# Altium schematic symbol library Libreria_Casera.SchLib: 169 symbols (part 1 of 2)
Pins are listed as number, name and electrical type; pins without a type are passive.

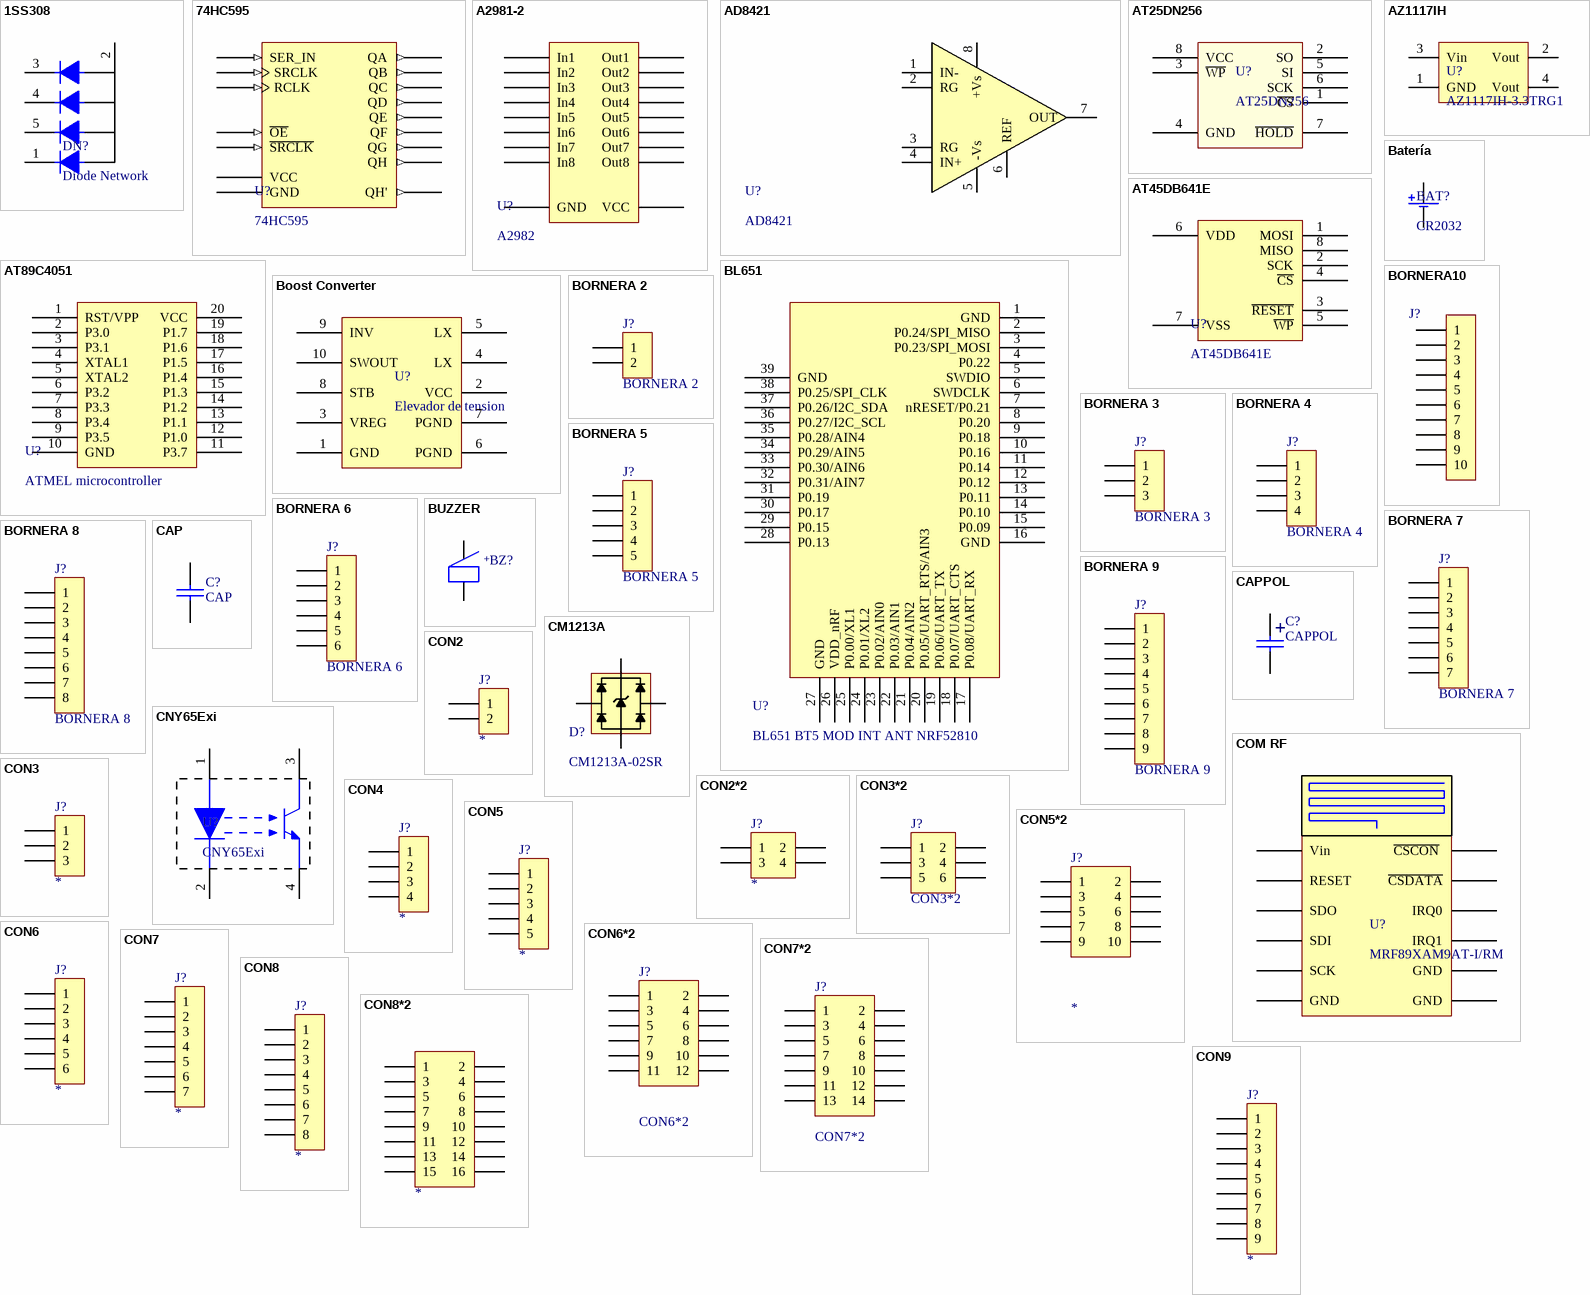
[diagram p0: symbols 1SS308 to CON9]

## 1SS308
designator DN?, comment Diode Network
footprint sot23-5
pins: 1, 2, 3, 4, 5

## 74HC595
designator U?
footprint SOIC16 (SOIC, 16-Leads, Body 9,90x3,90mm, Pitch 1,27mm, IPC Medium Density)
footprint SSOP16 (SOP, 16-Leads, Body 6,20x5,30mm, Pitch 0,65mm, IPC Medium Density)
footprint TSSOP16
pins: 1 QB (out), 2 QC (out), 3 QD (out), 4 QE (out), 5 QF (out), 6 QG (out), 7 QH (out), 8 GND (power), 9 QH' (out), 10 ~{SRCLK} (in), 11 SRCLK (in), 12 RCLK (in), 13 ~{OE} (in), 14 SER_IN (in), 15 QA (out), 16 VCC (power)

## A2981-2
designator U?, comment A2982
footprint SOICW20
pins: 1 In1, 2 In2, 3 In3, 4 In4, 5 In5, 6 In6, 7 In7, 8 In8, 9 VCC, 12 GND, 13 Out8, 14 Out7, 15 Out6, 16 Out5, 17 Out4, 18 Out3, 19 Out2, 20 Out1

## AD8421
designator U?
footprint msop8 (TSOP, 8-Leads, Body 3,00x3,00mm, Pitch 0,65mm, IPC Medium Density)
pins: 1 IN-, 2 RG, 3 RG, 4 IN+, 5 -Vs, 6 REF, 7 OUT, 8 +Vs

## AT25DN256
designator U?
256-Kbit, 2.3V Minimum SPI Serial Flash Memory with Dual-Read Suppor
footprint SOIC8
footprint TSSOP8
footprint UFDN8 (SON, 8-Leads, Body 5,00x6,00mm, Pitch 1,27mm, Thermal Pad 4,00x3,40mm, IPC Medium Density)
pins: 1 ~{CS}, 2 SO, 3 ~{WP}, 4 GND, 5 SI, 6 SCK, 7 ~{HOLD}, 8 VCC

## AT45DB641E
designator U?
NOR FLASH SERIAL 64M
footprint SOICW08
footprint UFDN8 (SON, 8-Leads, Body 5,00x6,00mm, Pitch 1,27mm, Thermal Pad 4,00x3,40mm, IPC Medium Density)
pins: 1 MOSI, 2 SCK, 3 ~{RESET}, 4 ~{CS}, 5 ~{WP}, 6 VDD, 7 VSS, 8 MISO

## AT89C4051
designator U?, comment ATMEL microcontroller
footprint DIP20
pins: 1 RST/VPP, 2 P3.0, 3 P3.1, 4 XTAL1, 5 XTAL2, 6 P3.2, 7 P3.3, 8 P3.4, 9 P3.5, 10 GND, 11 P3.7, 12 P1.0, 13 P1.1, 14 P1.2, 15 P1.3, 16 P1.4, 17 P1.5, 18 P1.6, 19 P1.7, 20 VCC

## AZ1117IH
designator U?, comment AZ1117IH-3.3TRG1
PMIC - reguladores de voltaje lineal Positivo Fija 1 Salida 1A SOT-223-3
footprint TO-220 H
footprint TO-220 V
footprint TO-220 H - DISIPADOR
footprint TO92
footprint dpak
footprint d2pak
footprint SOT223
pins: 1 GND, 2 Vout, 3 Vin, 4 Vout

## Batería
designator BAT?, comment CR2032
BAT-HLD-001-THM by Linx Technologies Inc.
footprint CR2032_TH
pins: 1, 2

## BL651
designator U?, comment BL651 BT5 MOD INT ANT NRF52810
footprint BL651_INT_ANT
pins: 1 GND, 2 P0.24/SPI_MISO, 3 P0.23/SPI_MOSI, 4 P0.22, 5 SWDIO, 6 SWDCLK, 7 nRESET/P0.21, 8 P0.20, 9 P0.18, 10 P0.16, 11 P0.14, 12 P0.12, 13 P0.11, 14 P0.10, 15 P0.09, 16 GND, 17 P0.08/UART_RX, 18 P0.07/UART_CTS, 19 P0.06/UART_TX, 20 P0.05/UART_RTS/AIN3, 21 P0.04/AIN2, 22 P0.03/AIN1, 23 P0.02/AIN0, 24 P0.01/XL2, 25 P0.00/XL1, 26 VDD_nRF, 27 GND, 28 P0.13, 29 P0.15, 30 P0.17, 31 P0.19, 32 P0.31/AIN7, 33 P0.30/AIN6, 34 P0.29/AIN5, 35 P0.28/AIN4, 36 P0.27/I2C_SCL, 37 P0.26/I2C_SDA, 38 P0.25/SPI_CLK, 39 GND

## Boost Converter
designator U?, comment Elevador de tension
footprint 10-VFDFN
pins: 1 GND, 2 VCC, 3 VREG, 4 LX, 5 LX, 6 PGND, 7 PGND, 8 STB, 9 INV, 10 SWOUT

## BORNERA10
designator J?  (value not drawn)
footprint BORNERA10
pins: 1, 2, 3, 4, 5, 6, 7, 8, 9, 10

## BORNERA 2
designator J?
footprint BORNERA2 (Bornera con Tornillos 5mm separación)
footprint Bornera2_DegsonH
footprint Bornera2_DegsonV
pins: 1, 2

## BORNERA 3
designator J?
footprint BORNERA3 (Bornera con Tornillos 5mm separación)
footprint BORNERA3_DegsonH
footprint Bornera3_DegsonV
footprint MCV 1,5/ 3-G-3,81
pins: 1, 2, 3

## BORNERA 4
designator J?
footprint BORNERA4 (Bornera con Tornillos 5mm separación)
footprint ICC25-H/4L5,0-7035
footprint ICC25-H/4R5,0-7035
footprint MCV 1,5/ 4-G-3,81
pins: 1, 2, 3, 4

## BORNERA 5
designator J?
footprint BORNERA5 (Bornera con Tornillos 5mm separación)
footprint MCV 1,5/ 5-G-3,81
pins: 1, 2, 3, 4, 5

## BORNERA 6
designator J?
footprint BORNERA6 (Bornera con Tornillos 5mm separación)
pins: 1, 2, 3, 4, 5, 6

## BORNERA 7
designator J?
footprint BORNERA7 (Bornera con Tornillos 5mm separación)
pins: 1, 2, 3, 4, 5, 6, 7

## BORNERA 8
designator J?
footprint BORNERA8 (Bornera con Tornillos 5mm separación)
pins: 1, 2, 3, 4, 5, 6, 7, 8

## BORNERA 9
designator J?
footprint BORNERA9 (Bornera con Tornillos 5mm separación)
pins: 1, 2, 3, 4, 5, 6, 7, 8, 9

## BUZZER
designator BZ?
footprint BUZZER 12MM
pins: 1, 2
text: +

## CAP
designator C?
footprint 0805 (Pasivo 0805)
footprint 1206 (Pasivo 1206)
footprint 0603 (Footprint not found)
footprint CAP200
footprint CAP100
pins: 1, 2

## CAPPOL
designator C?
footprint CAP100RP
footprint CAP200RP
footprint CAP100RP2 (Footprint not found)
footprint CAP200RP2 (Body Diameter 12.5mm)
footprint CAP300RP
footprint CAPSMD8x8.3 (Aluminum Electrolytic Capacitor, Body 8,30x8,30x10,00mm, IPC Low Density)
footprint CAPSMD10x10.3 (Aluminum Electrolytic Capacitor, Body 10,30x10,30x10,00mm, IPC Low Density)
footprint CAP700RP
footprint CAP700RP_H
pins: 1, 2
text: +

## CM1213A
designator D?, comment CM1213A-02SR
TVS DIODE 3.3V 10V SOT143-4 / DigiKey: CM1213A-02SROSCT-ND
footprint SOT143-4 (SOT143, 4-Leads, Body 2,92x2,37mm, Pitch 1,90mm, IPC Medium Density)
pins: 1 Vn, 2 CH1, 3 CH2, 4 Vp

## CNY65Exi
designator U?
footprint DIP4 (Ex)
pins: 1, 2, 3, 4

## COM RF
designator U?, comment MRF89XAM9AT-I/RM
pins: 1 GND, 2 RESET, 3 ~{CSCON} , 4 IRQ0, 5 SDI, 6 SCK, 7 SDO, 8 ~{CSDATA}, 9 IRQ1, 10 Vin, 11 GND, 12 GND

## CON2
designator J?
footprint SIP2
footprint SIP2 90
pins: 1, 2

## CON2*2
designator J?
footprint SIP2*2
pins: 1, 2, 3, 4

## CON3
designator J?
footprint SIP3
footprint SIP3 90
pins: 1, 2, 3

## CON3*2
designator J?
footprint SIP3*2 (Footprint not found)
pins: 1, 2, 3, 4, 5, 6

## CON4
designator J?
footprint SIP4
footprint SIP4 90
pins: 1, 2, 3, 4

## CON5
designator J?
footprint SIP5
footprint SIP5 90
pins: 1, 2, 3, 4, 5

## CON5*2
designator J?
footprint SIP5*2
pins: 1, 2, 3, 4, 5, 6, 7, 8, 9, 10

## CON6
designator J?
footprint SIP6
footprint SIP6 90
pins: 1, 2, 3, 4, 5, 6

## CON6*2
designator J?
footprint SIP6*2
pins: 1, 2, 3, 4, 5, 6, 7, 8, 9, 10, 11, 12

## CON7
designator J?
footprint SIP7
footprint SIP7 90
pins: 1, 2, 3, 4, 5, 6, 7

## CON7*2
designator J?
footprint SIP7*2
pins: 1, 2, 3, 4, 5, 6, 7, 8, 9, 10, 11, 12, 13, 14

## CON8
designator J?
footprint SIP8
footprint SIP8 90
pins: 1, 2, 3, 4, 5, 6, 7, 8

## CON8*2
designator ?
footprint SIP8*2
pins: 1, 2, 3, 4, 5, 6, 7, 8, 9, 10, 11, 12, 13, 14, 15, 16

## CON9
designator J?
footprint SIP9
footprint SIP9 90
pins: 1, 2, 3, 4, 5, 6, 7, 8, 9

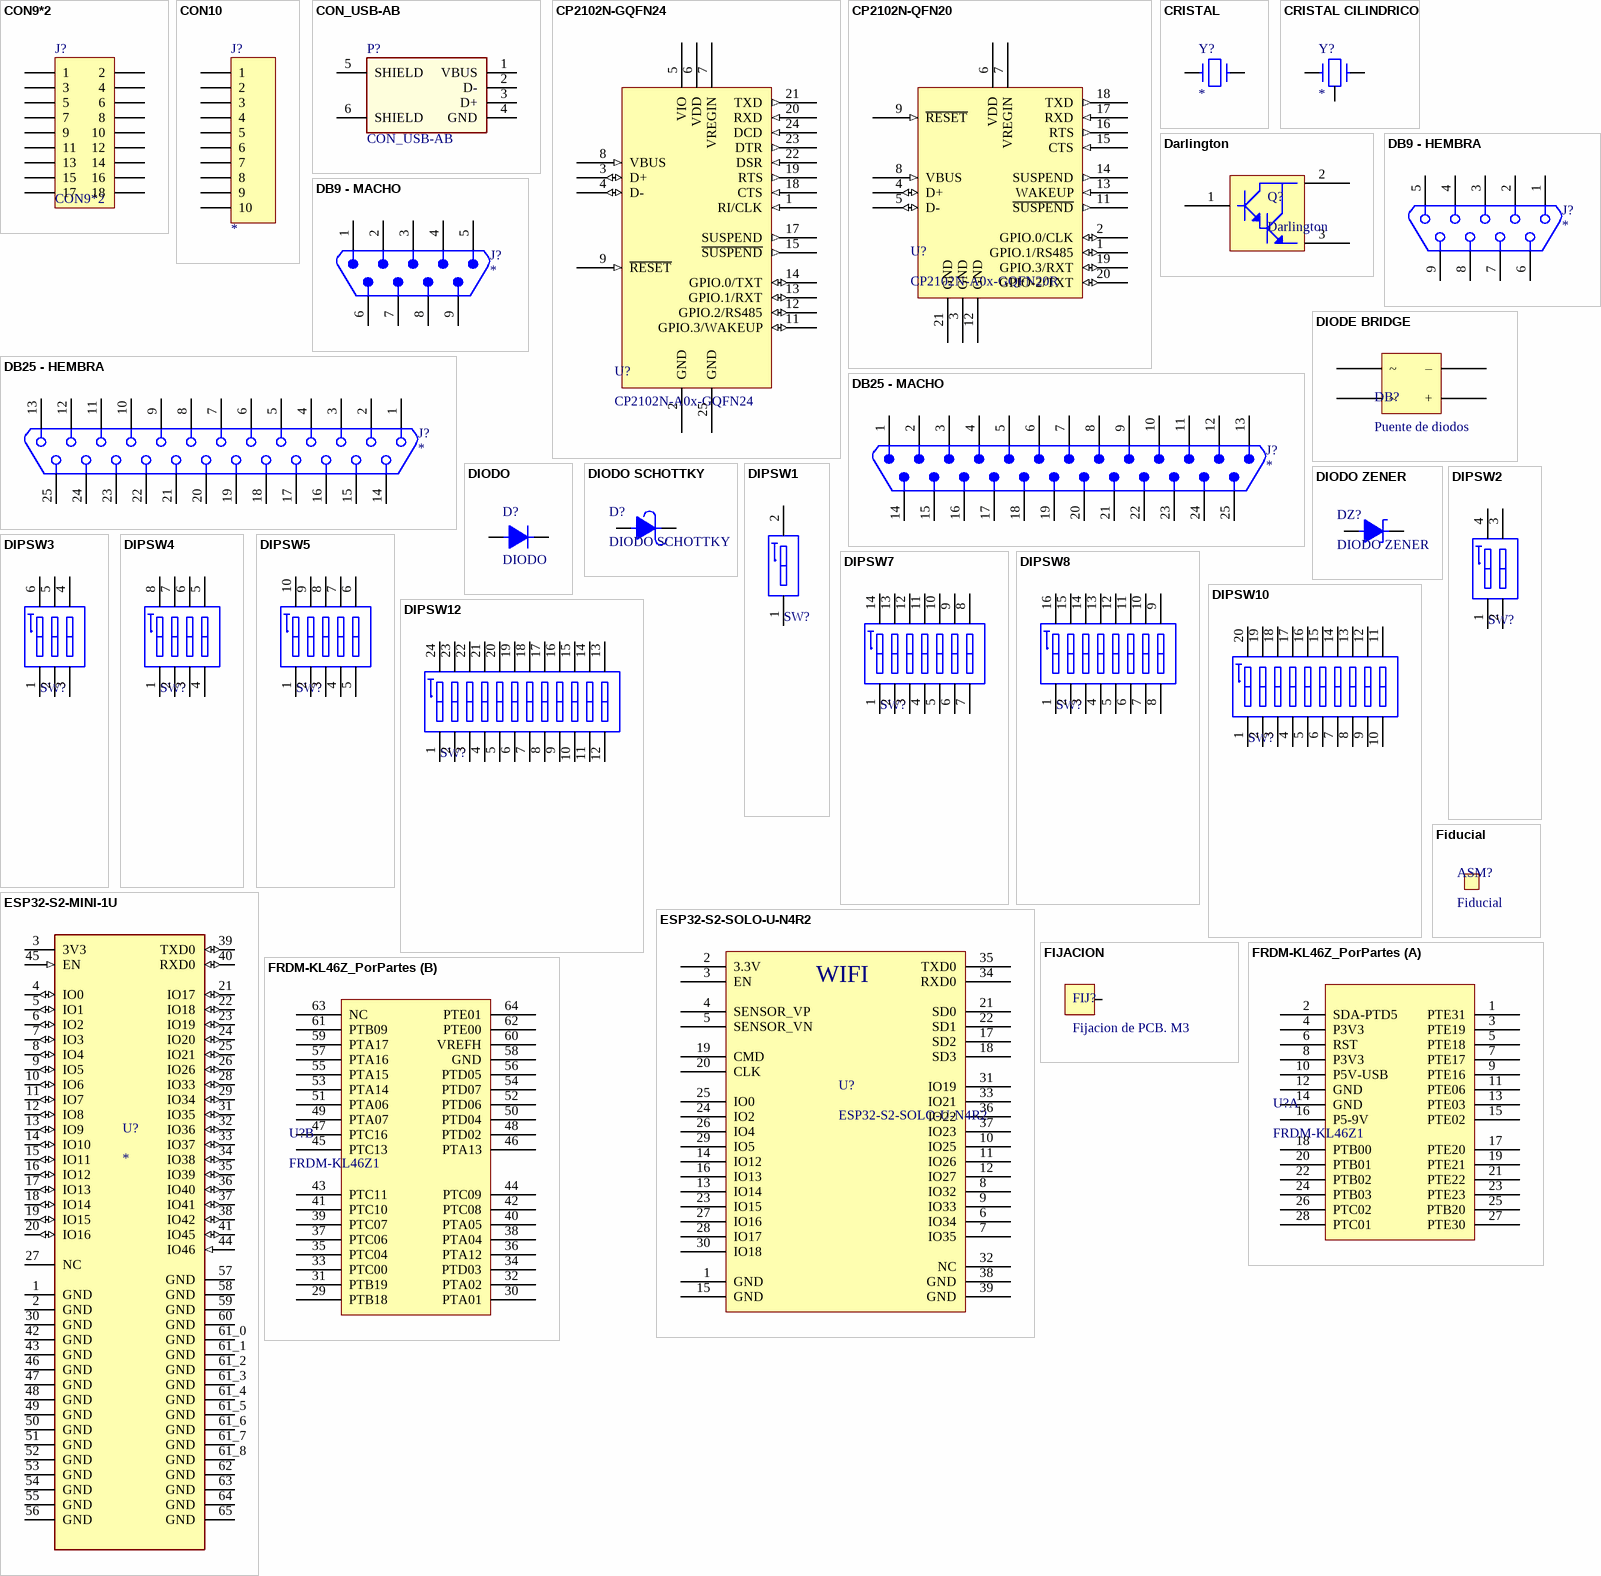
[diagram p1: symbols CON9*2 to FRDM-KL46Z_PorPartes]

## CON9*2
designator J?
footprint SIP9*2
pins: 1, 2, 3, 4, 5, 6, 7, 8, 9, 10, 11, 12, 13, 14, 15, 16, 17, 18

## CON10
designator J?
footprint SIP10
footprint SIP10 90
pins: 1, 2, 3, 4, 5, 6, 7, 8, 9, 10

## CON_USB-AB
designator P?
CONN RCPT USB TYPE B R/A PCB; Digikey: 609-1039-ND
footprint USB-BCH
pins: 1 VBUS, 2 D-, 3 D+, 4 GND, 5 SHIELD, 6 SHIELD

## CP2102N-GQFN24
designator U?, comment CP2102N-A0x-GQFN24
USB Bridge, USB to UART USB 2.0 UART Interface 24-QFN (4x4)
footprint QFN24 4x4 (QFN, 24-Leads, Body 4,00x4,00mm, Pitch 0,50mm, Thermal Pad 1,70x1,70mm, IPC Medium Density)
pins: 1 RI/CLK (in) "Digital Input. Ring Indicator control input (active low).  Digital Output. Clock output.", 2 GND (power) "Ground", 3 D+ (io) "USB D+", 4 D- (io) "USB D-", 5 VIO (power) "I/O Supply Power Input", 6 VDD (power) "Supply Power Input /  5V Regulator Output", 7 VREGIN (power) "5V Regulator Input", 8 VBUS (in) "Digital Input. VBUS Sense Input. This pin should be connected to the VBUS signal of a USB  network. A 5 V signal on this pin indicates a USB network connection.", 9 ~{RESET} (in) "Active-low Rese", 11 GPIO.3/WAKEUP (io) "Digital Input/Output. General Purpose I/O.  Digital Input. Remote USB wakeup interrupt input.", 12 GPIO.2/RS485 (io) "Digital Input/Output. General Purpose I/O.  Digital Output. RS485 control signal", 13 GPIO.1/RXT (io) "Digital Input/Output. General Purpose I/O.  Digital Output. Receive LED toggle.", 14 GPIO.0/TXT (io) "Digital Input/Output. General Purpose I/O.  Digital Output. Transmit LED toggle", 15 ~{SUSPEND} (out) "Digital Output. This pin is driven low when the device enters the USB suspend state.", 17 SUSPEND (out) "Digital Output. This pin is driven high when the device enters the USB suspend state.", 18 CTS (in) "Digital Input. Clear To Send control input (active low).", 19 RTS (out) "Digital Output. Ready To Send control output (active low)", 20 RXD (in) "Digital Input. Asynchronous data input (UART Receive)", 21 TXD (out) "Digital Output. Asynchronous data output (UART Transmit).", 22 DSR (in) "Digital Input. Data Set Ready control input (active low).", 23 DTR (out) "Digital Output. Data Terminal Ready control output (active low).", 24 DCD (in) "Digital Input. Data Carrier Detect control input (active low)", 25 GND (power) "Ground"

## CP2102N-QFN20
designator U?, comment CP2102N-A0x-GQFN20R
USB Bridge, USB to UART USB 2.0 UART Interface 20-QFN (3x3)
footprint QFN20 (QFN, 20-Leads, Body 4,00x4,00mm, Pitch 0,50mm, Thermal Pad 2,55x2,55mm, IPC Medium Density)
pins: 1 GPIO.1/RS485 (io) "Digital Output. RS485 control signal.", 2 GPIO.0/CLK (io) "Digital Output. Clock output.", 3 GND (power) "Ground", 4 D+ (io) "USB Data Positive", 5 D- (io) "USB Data Negative", 6 VDD (power) "Supply Power Input /  5V Regulator Output", 7 VREGIN (power) "N 5V Regulator Input", 8 VBUS (in) "Digital Input. VBUS Sense Input. This pin should be connected to the VBUS signal of a USB  network. A 5 V signal on this pin indicates a USB network connection.", 9 ~{RESET} (in) "Active-low Reset", 11 ~{SUSPEND} (out) "Digital Output. This pin is driven low when the device enters the USB suspend state", 12 GND (power) "Ground", 13 WAKEUP (in) "Digital Input. Remote USB wakeup interrupt input", 14 SUSPEND (out) "Digital Output. This pin is driven high when the device enters the USB suspend stat", 15 CTS (in) "Clear To Send control input (active low).", 16 RTS (out) "Ready To Send control output (active low)", 17 RXD (in) "Asynchronous data input (UART Receive).", 18 TXD (out) "Asynchronous data output (UART Transmit).", 19 GPIO.3/RXT (io) "Digital Output. Receive LED toggle.", 20 GPIO-2/TXT (io) "Digital Output. Transmit LED toggle.", 21 GND

## CRISTAL
designator Y?
footprint CRISTAL PERFIL
pins: 1, 2 10

## CRISTAL CILINDRICO
designator Y?
footprint CRISTAL CILINDRICO (Footprint not found)
pins: 1, 2 10, 3 10

## Darlington
designator Q?
Transistores - Bipolar (BJT) - Simple NPN
footprint DPAK
pins: 1, 2, 3

## DB9 - HEMBRA
designator J?
footprint DB9H-CI
pins: 1, 2, 3, 4, 5, 6, 7, 8, 9

## DB9 - MACHO
designator J?
footprint DB9M-CI
pins: 1, 2, 3, 4, 5, 6, 7, 8, 9

## DB25 - HEMBRA
designator J?
footprint DB25H-CI
pins: 1, 2, 3, 4, 5, 6, 7, 8, 9, 10, 11, 12, 13, 14, 15, 16, 17, 18, 19, 20, 21, 22, 23, 24, 25

## DB25 - MACHO
designator J?
footprint DB25M-CI
pins: 1, 2, 3, 4, 5, 6, 7, 8, 9, 10, 11, 12, 13, 14, 15, 16, 17, 18, 19, 20, 21, 22, 23, 24, 25

## DIODE BRIDGE
designator DB?, comment Puente de diodos
footprint MB10F (TSOP, 4-Leads, Body 4,72x3,85mm, Pitch 2,40mm, IPC Medium Density)
pins: 1 ~, 2 ~, 3 +, 4 –

## DIODO
designator D?
footprint SMAK
footprint 1206K
footprint DO41
footprint SMBK
footprint SMCK
footprint SOD123
footprint SMB+A (SMA Diode)
footprint SMC+B
pins: 1, 2

## DIODO SCHOTTKY
designator D?
footprint SMAK
footprint SMCK
footprint DO41
footprint SMBK
pins: 1, 2

## DIODO ZENER
designator DZ?
footprint SOT23
footprint DO41
footprint sod123
footprint sma (SMA DIode Package)
footprint SMB (SMB Diode Package)
footprint SMC (SMC Diode Package)
footprint SMB+A (SMA Diode)
footprint SMC+B
pins: 1, 2

## DIPSW1
designator SW?
WS-DITV 2.54 mm Compact THT Dip Switch with Raised Actuator; PartNumber: 418117270901; NoPins: 2; PackageReference: 418117270901; ComponentLink1Description: Manufacturer URL; ComponentLink1URL: http://www.we-online.com; ComponentLink2Description: Datasheet; ComponentLink2URL: http://katalog.we-online.de/em/datasheet/4181172709xx.pdf
footprint DIPSW1 (01p, 2.54mm Pitch, Horizontal, Box Type, THT, raised Actuator, red, without Tape, Tube)
pins: 1, 2

## DIPSW2
designator SW?
WS-DITV 2.54 mm Compact THT Dip Switch with Raised Actuator; PartNumber: 418117270902; NoPins: 4; PackageReference: 418117270902; ComponentLink1Description: Manufacturer URL; ComponentLink1URL: http://www.we-online.com; ComponentLink2Description: Datasheet; ComponentLink2URL: http://katalog.we-online.de/em/datasheet/4181172709xx.pdf
footprint DIPSW2 (02p, 2.54mm Pitch, Horizontal, Box Type, THT, raised Actuator, red, without Tape, Tube)
pins: 1, 2, 3, 4

## DIPSW3
designator SW?
WS-DITV 2.54 mm Compact THT Dip Switch with Raised Actuator; PartNumber: 418117270903; NoPins: 6; PackageReference: 418117270903; ComponentLink1Description: Manufacturer URL; ComponentLink1URL: http://www.we-online.com; ComponentLink2Description: Datasheet; ComponentLink2URL: http://katalog.we-online.de/em/datasheet/4181172709xx.pdf
footprint DIPSW3 (03p, 2.54mm Pitch, Horizontal, Box Type, THT, raised Actuator, red, without Tape, Tube)
pins: 1, 2, 3, 4, 5, 6

## DIPSW4
designator SW?
WS-DITV 2.54 mm Compact THT Dip Switch with Raised Actuator; PartNumber: 418117270904; NoPins: 8; PackageReference: 418117270904; ComponentLink1Description: Manufacturer URL; ComponentLink1URL: http://www.we-online.com; ComponentLink2Description: Datasheet; ComponentLink2URL: http://katalog.we-online.de/em/datasheet/4181172709xx.pdf
footprint DIPSW4 (04p, 2.54mm Pitch, Horizontal, Box Type, THT, raised Actuator, red, without Tape, Tube)
pins: 1, 2, 3, 4, 5, 6, 7, 8

## DIPSW5
designator SW?
WS-DITV 2.54 mm Compact THT Dip Switch with Raised Actuator; PartNumber: 418117270905; NoPins: 10; PackageReference: 418117270905; ComponentLink1Description: Manufacturer URL; ComponentLink1URL: http://www.we-online.com; ComponentLink2Description: Datasheet; ComponentLink2URL: http://katalog.we-online.de/em/datasheet/4181172709xx.pdf
footprint DIPSW5 (05p, 2.54mm Pitch, Horizontal, Box Type, THT, raised Actuator, red, without Tape, Tube)
pins: 1, 2, 3, 4, 5, 6, 7, 8, 9, 10

## DIPSW7
designator SW?
WS-DITV 2.54 mm Compact THT Dip Switch with Raised Actuator; PartNumber: 418117270907; NoPins: 14; PackageReference: 418117270907; ComponentLink1Description: Manufacturer URL; ComponentLink1URL: http://www.we-online.com; ComponentLink2Description: Datasheet; ComponentLink2URL: http://katalog.we-online.de/em/datasheet/4181172709xx.pdf
footprint DIPSW7 (07p, 2.54mm Pitch, Horizontal, Box Type, THT, raised Actuator, red, without Tape, Tube)
pins: 1, 2, 3, 4, 5, 6, 7, 8, 9, 10, 11, 12, 13, 14

## DIPSW8
designator SW?
WS-DITV 2.54 mm Compact THT Dip Switch with Raised Actuator; PartNumber: 418117270908; NoPins: 16; PackageReference: 418117270908; ComponentLink1Description: Manufacturer URL; ComponentLink1URL: http://www.we-online.com; ComponentLink2Description: Datasheet; ComponentLink2URL: http://katalog.we-online.de/em/datasheet/4181172709xx.pdf
footprint DIPSW8 (08p, 2.54mm Pitch, Horizontal, Box Type, THT, raised Actuator, red, without Tape, Tube)
pins: 1, 2, 3, 4, 5, 6, 7, 8, 9, 10, 11, 12, 13, 14, 15, 16

## DIPSW10
designator SW?
WS-DITV 2.54 mm Compact THT Dip Switch with Raised Actuator; PartNumber: 418117270910; NoPins: 20; PackageReference: 418117270910; ComponentLink1Description: Manufacturer URL; ComponentLink1URL: http://www.we-online.com; ComponentLink2Description: Datasheet; ComponentLink2URL: http://katalog.we-online.de/em/datasheet/4181172709xx.pdf
footprint DIPSW10 (10p, 2.54mm Pitch, Horizontal, Box Type, THT, raised Actuator, red, without Tape, Tube)
pins: 1, 2, 3, 4, 5, 6, 7, 8, 9, 10, 11, 12, 13, 14, 15, 16, 17, 18, 19, 20

## DIPSW12
designator SW?
WS-DITV 2.54 mm Compact THT Dip Switch with Raised Actuator; PartNumber: 418117270912; NoPins: 24; PackageReference: 418117270912; ComponentLink1Description: Manufacturer URL; ComponentLink1URL: http://www.we-online.com; ComponentLink2Description: Datasheet; ComponentLink2URL: http://katalog.we-online.de/em/datasheet/4181172709xx.pdf
footprint DIPSW12 (12p, 2.54mm Pitch, Horizontal, Box Type, THT, raised Actuator, red, without Tape, Tube)
pins: 1, 2, 3, 4, 5, 6, 7, 8, 9, 10, 11, 12, 13, 14, 15, 16, 17, 18, 19, 20, 21, 22, 23, 24

## ESP32-S2-MINI-1U
designator U?
WiFi 802.11b/g/n Transceiver Module 2.412GHz ~ 2.484GHz Antenna Not Included Surface Mount; MF: Espressif Systems; MP: ESP32-S2-MINI-1U; Price: None; Purchase-URL: https://pricing.snapeda.com/search/part/ESP32-S2-MINI-1U/?ref=eda; Package: NON STANDARD-65 Espressif Systems; Value: *; Availability: In Stock
footprint ESP32-S2-MINI-1U
pins: 1 GND (power), 2 GND (power), 3 3V3 (power), 4 IO0 (io), 5 IO1 (io), 6 IO2 (io), 7 IO3 (io), 8 IO4 (io), 9 IO5 (io), 10 IO6 (io), 11 IO7 (io), 12 IO8 (io), 13 IO9 (io), 14 IO10 (io), 15 IO11 (io), 16 IO12 (io), 17 IO13 (io), 18 IO14 (io), 19 IO15 (io), 20 IO16 (io), 21 IO17 (io), 22 IO18 (io), 23 IO19 (io), 24 IO20 (io), 25 IO21 (io), 26 IO26 (io), 27 NC, 28 IO33 (io), 29 IO34 (io), 30 GND (power), 31 IO35 (io), 32 IO36 (io), 33 IO37 (io), 34 IO38 (io), 35 IO39 (io), 36 IO40 (io), 37 IO41 (io), 38 IO42 (io), 39 TXD0 (io), 40 RXD0 (io), 41 IO45 (io), 42 GND (power), 43 GND (power), 44 IO46 (in), 45 EN (in), 46 GND (power), 47 GND (power), 48 GND (power), 49 GND (power), 50 GND (power), 51 GND (power), 52 GND (power), 53 GND (power), 54 GND (power), 55 GND (power), 56 GND (power), 57 GND (power), 58 GND (power), 59 GND (power), 60 GND (power), 61_0 GND (power), 61_1 GND (power), 61_2 GND (power), 61_3 GND (power), 61_4 GND (power), 61_5 GND (power), 61_6 GND (power), 61_7 GND (power), 61_8 GND (power), 62 GND (power), 63 GND (power), 64 GND (power), 65 GND (power)

## ESP32-S2-SOLO-U-N4R2
designator U?
RF TXRX MODULE WIFI U.FL SMD 105
footprint ESP32 (RF TXRX MODULE WIFI U.FL SMD 105)
pins: 1 GND, 2 3.3V, 3 EN, 4 SENSOR_VP, 5 SENSOR_VN, 6 IO34, 7 IO35, 8 IO32, 9 IO33, 10 IO25, 11 IO26, 12 IO27, 13 IO14, 14 IO12, 15 GND, 16 IO13, 17 SD2, 18 SD3, 19 CMD, 20 CLK, 21 SD0, 22 SD1, 23 IO15, 24 IO2, 25 IO0, 26 IO4, 27 IO16, 28 IO17, 29 IO5, 30 IO18, 31 IO19, 32 NC, 33 IO21, 34 RXD0, 35 TXD0, 36 IO22, 37 IO23, 38 GND, 39 GND
text: WIFI

## Fiducial
designator ASM?
Fiducial Mark for PCB Asembly on Pick N' Place
footprint Fiducial (Fiducial Mark for PickN'Place)

## FIJACION
designator FIJ?, comment Fijacion de PCB. M3
footprint fijacion
pins: 0 640

## FRDM-KL46Z_PorPartes
designator U?, comment FRDM-KL46Z1
NXP Freedom development board
footprint FRDM-KL46Z (NXP Freedom Board)
part A pins: 1 PTE31, 2 SDA-PTD5, 3 PTE19, 4 P3V3, 5 PTE18, 6 RST, 7 PTE17, 8 P3V3, 9 PTE16, 10 P5V-USB, 11 PTE06, 12 GND, 13 PTE03, 14 GND, 15 PTE02, 16 P5-9V, 17 PTE20, 18 PTB00, 19 PTE21, 20 PTB01, 21 PTE22, 22 PTB02, 23 PTE23, 24 PTB03, 25 PTB20, 26 PTC02, 27 PTE30, 28 PTC01
part B pins: 29 PTB18, 30 PTA01, 31 PTB19, 32 PTA02, 33 PTC00, 34 PTD03, 35 PTC04, 36 PTA12, 37 PTC06, 38 PTA04, 39 PTC07, 40 PTA05, 41 PTC10, 42 PTC08, 43 PTC11, 44 PTC09, 45 PTC13, 46 PTA13, 47 PTC16, 48 PTD02, 49 PTA07, 50 PTD04, 51 PTA06, 52 PTD06, 53 PTA14, 54 PTD07, 55 PTA15, 56 PTD05, 57 PTA16, 58 GND, 59 PTA17, 60 VREFH, 61 PTB09, 62 PTE00, 63 NC, 64 PTE01

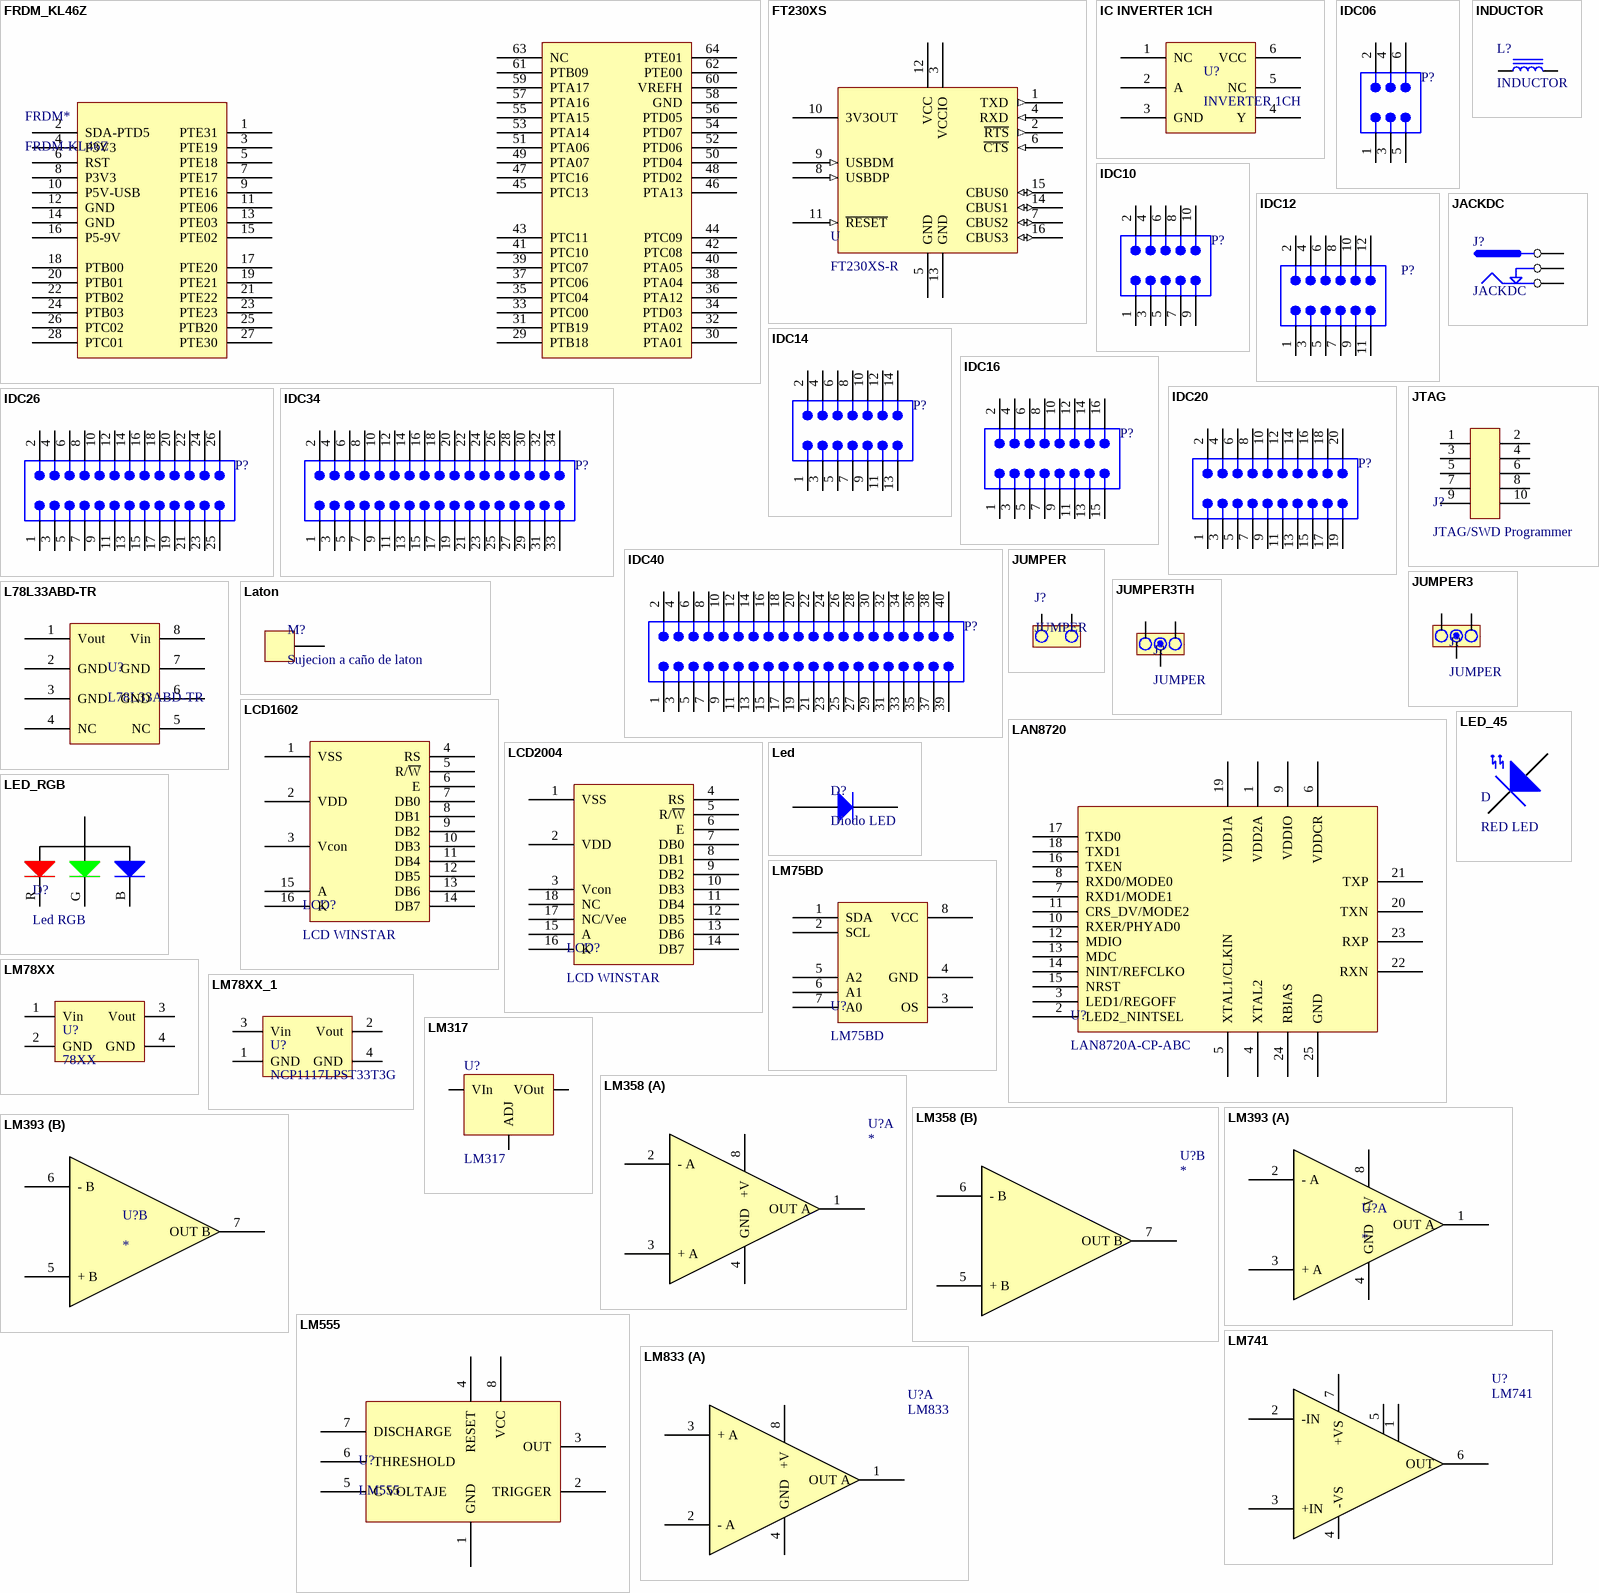
[diagram p2: symbols FRDM_KL46Z to LM833]

## FRDM_KL46Z
designator FRDM*, comment FRDM-KL46Z
NXP Freedom development board
footprint FRDM-KL46Z (NXP Freedom Board)
pins: 1 PTE31, 2 SDA-PTD5, 3 PTE19, 4 P3V3, 5 PTE18, 6 RST, 7 PTE17, 8 P3V3, 9 PTE16, 10 P5V-USB, 11 PTE06, 12 GND, 13 PTE03, 14 GND, 15 PTE02, 16 P5-9V, 17 PTE20, 18 PTB00, 19 PTE21, 20 PTB01, 21 PTE22, 22 PTB02, 23 PTE23, 24 PTB03, 25 PTB20, 26 PTC02, 27 PTE30, 28 PTC01, 29 PTB18, 30 PTA01, 31 PTB19, 32 PTA02, 33 PTC00, 34 PTD03, 35 PTC04, 36 PTA12, 37 PTC06, 38 PTA04, 39 PTC07, 40 PTA05, 41 PTC10, 42 PTC08, 43 PTC11, 44 PTC09, 45 PTC13, 46 PTA13, 47 PTC16, 48 PTD02, 49 PTA07, 50 PTD04, 51 PTA06, 52 PTD06, 53 PTA14, 54 PTD07, 55 PTA15, 56 PTD05, 57 PTA16, 58 GND, 59 PTA17, 60 VREFH, 61 PTB09, 62 PTE00, 63 NC, 64 PTE01

## FT230XS
designator U, comment FT230XS-R
USB Bridge, USB to UART USB 2.0 UART Interface 16-SSOP
footprint SSOP-16 (SOP, 16-Leads, Body 4,90x3,90mm, Pitch 0,64mm, IPC Medium Density)
pins: 1 TXD (out) "Transmit Asynchronous Data Output", 2 ~{RTS} (out) "Request to Send Control Output / Handshake Signal", 3 VCCIO (power) "1V8 - 3V3 supply for the IO cells", 4 RXD (in) "Receiving Asynchronous Data Input.", 5 GND (power) "0V Ground input.", 6 ~{CTS} (in) "Clear To Send Control Input / Handshake Signal", 7 CBUS2 (io) "Configurable CBUS I/O Pin. Default TXLED#", 8 USBDP (in) "USB Data Signal Plus.", 9 USBDM (in) "USB Data Signal Minus.", 10 3V3OUT "3V3 output at 50mA. May be used to power VCCIO.", 11 ~{RESET} (in) "Reset input (active low)", 12 VCC (power) "5 V (or 3V3) supply to IC", 13 GND (power) "0V Ground input.", 14 CBUS1 (io) "Configurable CBUS I/O Pin. Default RXLED#", 15 CBUS0 (io) "Configurable CBUS I/O Pin. Default TXDEN", 16 CBUS3 (io) "Configurable CBUS I/O Pin. Default SLEEP#"

## IC INVERTER 1CH
designator U?, comment INVERTER 1CH
SINGLE SCHMITT-TRIGGER INVERTER
pins: 1 NC, 2 A, 3 GND, 4 Y, 5 NC, 6 VCC

## IDC06
designator P?
Flat Cable Connector (IDC), Low-Profile Male Header, Straight Solder Pin, 6 Contacts, Performance Level 2; PCB_Layout: Complies with manufacturer's recommendation.; DrillSize: Corresponds to nominal value.; Published: 15-Nov-2004; DatasheetDocument: Sep-2003; PackageDocument: 25-Apr-2002; PackageReference: 918506x324; Publisher: Altium Limited; ComponentLink1Description: Manufacturer Link; ComponentLink1URL: http://www.harting.com/; ComponentLink2Description: Selection Guide; ComponentLink2URL: http://www.harting.com/imperia/md/content/steckverbinderundsystemkomponenten/folder/interface_engl_chapter_09.pdf
footprint IDC06 (Connector; IDC, Low Profile Male Header, Thru-Hole; 6 Position; Vertical; Pitch 2.54 mm; Body 15.24 x 9.2 x 9.45 mm (LxWxH))
footprint IDC06_90 (Connector; IDC, Low Profile Male Header, Thru-Hole; 6 Position; Right Angle; Pitch 2.54 mm; Body 15.24 x 8.9 x 9.2 mm (LxWxH))
pins: 1, 2, 3, 4, 5, 6

## IDC10
designator P?
Flat Cable Connector (IDC), Low-Profile Male Header, Angled Solder Pin, 10 Contacts, Performance Level 2; PCB_Layout: Complies with manufacturer's recommendation.; DrillSize: Corresponds to nominal value.; Published: 15-Nov-2004; DatasheetDocument: Sep-2003; PackageDocument: 03-Jun-2003; PackageReference: 918510x323; Publisher: Altium Limited; ComponentLink1Description: Manufacturer Link; ComponentLink1URL: http://www.harting.com/; ComponentLink2Description: Selection Guide; ComponentLink2URL: http://www.harting.com/imperia/md/content/steckverbinderundsystemkomponenten/folder/interface_engl_chapter_09.pdf
footprint IDC10
footprint idc10_traba
footprint idc10_90 (Connector; IDC, Low Profile Male Header, Thru-Hole; 10 Position; Right Angle; Pitch 2.54 mm; Body 20.32 x 8.9 x 9.2 mm (LxWxH))
pins: 1, 2, 3, 4, 5, 6, 7, 8, 9, 10

## IDC12
designator P?
Flat Cable Connector (IDC), Low-Profile Male Header, Angled Solder Pin, 12 Contacts, Performance Level 2; PCB_Layout: Complies with manufacturer's recommendation.; DrillSize: Corresponds to nominal value.; Published: 15-Nov-2004; DatasheetDocument: Sep-2003; PackageDocument: 03-Jun-2003; PackageReference: 918514x323; Publisher: Altium Limited; ComponentLink1Description: Manufacturer Link; ComponentLink1URL: http://www.harting.com/; ComponentLink2Description: Selection Guide; ComponentLink2URL: http://www.harting.com/imperia/md/content/steckverbinderundsystemkomponenten/folder/interface_engl_chapter_09.pdf
footprint IDC12_90 (Connector; IDC, Low Profile Male Header, Thru-Hole; 12 Position; Right Angle; Pitch 2.54 mm; Body 25.40 x 8.9 x 9.2 mm (LxWxH))
pins: 1, 2, 3, 4, 5, 6, 7, 8, 9, 10, 11, 12

## IDC14
designator P?
Flat Cable Connector (IDC), Low-Profile Male Header, Angled Solder Pin, 14 Contacts, Performance Level 2; PCB_Layout: Complies with manufacturer's recommendation.; DrillSize: Corresponds to nominal value.; Published: 15-Nov-2004; DatasheetDocument: Sep-2003; PackageDocument: 03-Jun-2003; PackageReference: 918514x323; Publisher: Altium Limited; ComponentLink1Description: Manufacturer Link; ComponentLink1URL: http://www.harting.com/; ComponentLink2Description: Selection Guide; ComponentLink2URL: http://www.harting.com/imperia/md/content/steckverbinderundsystemkomponenten/folder/interface_engl_chapter_09.pdf
footprint idc14 (Connector; IDC, Low Profile Male Header, Thru-Hole; 14 Position; Vertical; Pitch 2.54 mm; Body 25.40 x 9.2 x 9.45 mm (LxWxH))
footprint idc14_90 (Connector; IDC, Low Profile Male Header, Thru-Hole; 14 Position; Right Angle; Pitch 2.54 mm; Body 25.40 x 8.9 x 9.2 mm (LxWxH))
footprint idc14_traba (Connector; IDC, Thru-Hole; 14 Position; Vertical; Pitch 2.54 mm; Body 37.40 x 8.5 x 17.30 mm (LxWxH), Without locking levers)
pins: 1, 2, 3, 4, 5, 6, 7, 8, 9, 10, 11, 12, 13, 14

## IDC16
designator P?
Flat Cable Connector (IDC), Low-Profile Male Header, Angled Solder Pin, 16 Contacts, Performance Level 2; PCB_Layout: Complies with manufacturer's recommendation.; DrillSize: Corresponds to nominal value.; Published: 15-Nov-2004; DatasheetDocument: Sep-2003; PackageDocument: 01-Feb-2000; PackageReference: 918516x323; Publisher: Altium Limited; ComponentLink1Description: Manufacturer Link; ComponentLink1URL: http://www.harting.com/; ComponentLink2Description: Selection Guide; ComponentLink2URL: http://www.harting.com/imperia/md/content/steckverbinderundsystemkomponenten/folder/interface_engl_chapter_09.pdf
footprint idc16
footprint idc16_90 (Connector; IDC, Low Profile Male Header, Thru-Hole; 16 Position; Right Angle; Pitch 2.54 mm; Body 27.94 x 8.9 x 9.2 mm (LxWxH))
footprint idc16_traba (Connector; IDC, Thru-Hole; 16 Position; Vertical; Pitch 2.54 mm; Body 39.90 x 8.5 x 17.30 mm (LxWxH), Without locking levers)
pins: 1, 2, 3, 4, 5, 6, 7, 8, 9, 10, 11, 12, 13, 14, 15, 16

## IDC20
designator P?
Flat Cable Connector (IDC), Low-Profile Male Header, Angled Solder Pin, 20 Contacts, Performance Level 2; PCB_Layout: Complies with manufacturer's recommendation.; DrillSize: Corresponds to nominal value.; Published: 15-Nov-2004; DatasheetDocument: Sep-2003; PackageDocument: 01-Feb-2000; PackageReference: 918520x323; Publisher: Altium Limited; ComponentLink1Description: Manufacturer Link; ComponentLink1URL: http://www.harting.com/; ComponentLink2Description: Selection Guide; ComponentLink2URL: http://www.harting.com/imperia/md/content/steckverbinderundsystemkomponenten/folder/interface_engl_chapter_09.pdf
footprint idc20 (Connector; IDC, Low Profile Male Header, Thru-Hole; 20 Position; Vertical; Pitch 2.54 mm; Body 33.02 x 9.2 x 9.45 mm (LxWxH))
footprint idc20_90 (Connector; IDC, Low Profile Male Header, Thru-Hole; 20 Position; Right Angle; Pitch 2.54 mm; Body 33.02 x 8.9 x 9.2 mm (LxWxH))
pins: 1, 2, 3, 4, 5, 6, 7, 8, 9, 10, 11, 12, 13, 14, 15, 16, 17, 18, 19, 20

## IDC26
designator P?
Flat Cable Connector (IDC), Low-Profile Male Header, Angled Solder Pin, 26 Contacts, Performance Level 2; PCB_Layout: Complies with manufacturer's recommendation.; DrillSize: Corresponds to nominal value.; Published: 15-Nov-2004; DatasheetDocument: Sep-2003; PackageDocument: 03-Jun-2003; PackageReference: 918526x323; Publisher: Altium Limited; ComponentLink1Description: Manufacturer Link; ComponentLink1URL: http://www.harting.com/; ComponentLink2Description: Selection Guide; ComponentLink2URL: http://www.harting.com/imperia/md/content/steckverbinderundsystemkomponenten/folder/interface_engl_chapter_09.pdf
footprint idc26 (Connector; IDC, Low Profile Male Header, Thru-Hole; 26 Position; Vertical; Pitch 2.54 mm; Body 40.64 x 9.2 x 9.45 mm (LxWxH))
footprint idc26_90 (Connector; IDC, Low Profile Male Header, Thru-Hole; 26 Position; Right Angle; Pitch 2.54 mm; Body 40.64 x 8.9 x 9.2 mm (LxWxH))
pins: 1, 2, 3, 4, 5, 6, 7, 8, 9, 10, 11, 12, 13, 14, 15, 16, 17, 18, 19, 20, 21, 22, 23, 24, 25, 26

## IDC34
designator P?
Flat Cable Connector (IDC), Low-Profile Male Header, Angled Solder Pin, 34 Contacts, Performance Level 2; PCB_Layout: Complies with manufacturer's recommendation.; DrillSize: Corresponds to nominal value.; Published: 15-Nov-2004; DatasheetDocument: Sep-2003; PackageDocument: 18-Apr-2003; PackageReference: 918534x323; Publisher: Altium Limited; ComponentLink1Description: Manufacturer Link; ComponentLink1URL: http://www.harting.com/; ComponentLink2Description: Selection Guide; ComponentLink2URL: http://www.harting.com/imperia/md/content/steckverbinderundsystemkomponenten/folder/interface_engl_chapter_09.pdf
footprint idc34 (Connector; IDC, Low Profile Male Header, Thru-Hole; 34 Position; Vertical; Pitch 2.54 mm; Body 50.80 x 9.2 x 9.45 mm (LxWxH))
footprint idc34_90 (Connector; IDC, Low Profile Male Header, Thru-Hole; 34 Position; Right Angle; Pitch 2.54 mm; Body 50.80 x 8.9 x 9.2 mm (LxWxH))
pins: 1, 2, 3, 4, 5, 6, 7, 8, 9, 10, 11, 12, 13, 14, 15, 16, 17, 18, 19, 20, 21, 22, 23, 24, 25, 26, 27, 28, 29, 30, 31, 32, 33, 34

## IDC40
designator P?
Flat Cable Connector (IDC), Low-Profile Male Header, Angled Solder Pin, 40 Contacts, Performance Level 2; PCB_Layout: Complies with manufacturer's recommendation.; DrillSize: Corresponds to nominal value.; Published: 15-Nov-2004; DatasheetDocument: Sep-2003; PackageDocument: 01-Feb-2000; PackageReference: 918540x323; Publisher: Altium Limited; ComponentLink1Description: Manufacturer Link; ComponentLink1URL: http://www.harting.com/; ComponentLink2Description: Selection Guide; ComponentLink2URL: http://www.harting.com/imperia/md/content/steckverbinderundsystemkomponenten/folder/interface_engl_chapter_09.pdf
footprint idc40 (Connector; IDC, Low Profile Male Header, Thru-Hole; 40 Position; Vertical; Pitch 2.54 mm; Body 58.42 x 9.2 x 9.45 mm (LxWxH))
footprint idc40_90 (Connector; IDC, Low Profile Male Header, Thru-Hole; 40 Position; Right Angle; Pitch 2.54 mm; Body 58.42 x 8.9 x 9.2 mm (LxWxH))
pins: 1, 2, 3, 4, 5, 6, 7, 8, 9, 10, 11, 12, 13, 14, 15, 16, 17, 18, 19, 20, 21, 22, 23, 24, 25, 26, 27, 28, 29, 30, 31, 32, 33, 34, 35, 36, 37, 38, 39, 40

## INDUCTOR
designator L?
footprint WE-PD SERIES (POWER-CHOKE WE-PD)
footprint DO3316
footprint L_IHLP (Footprint para IHLP2525CZER3R3M11)
footprint SRR1210
pins: 1, 2

## JACKDC
designator J?
footprint JACKDC
pins: 1, 2, 3

## JTAG
designator J?, comment JTAG/SWD Programmer
footprint FTSH-105-01-XXX-DV-K
pins: 1 36, 2 45, 3 37, 4 44, 5 38, 6 43, 7 39, 8 42, 9 40, 10 41

## JUMPER
designator J?
footprint 0805 (Pasivo 0805)
footprint JUMPER2
pins: 1, 2

## JUMPER3
designator J?, comment JUMPER
footprint JUMPER3
pins: 1, 2, 3

## JUMPER3TH
designator J?, comment JUMPER
TIRA DE PINES 1x3
footprint JUMPER3TH
pins: 1, 2, 3

## L78L33ABD-TR
designator U?
Linear Voltage Regulator IC Positive Fixed 1 Output 100mA 8-SOIC
footprint SO8
pins: 1 Vout, 2 GND, 3 GND, 4 NC, 5 NC, 6 GND, 7 GND, 8 Vin

## LAN8720
designator U?, comment LAN8720A-CP-ABC
IC TXRX ETHERNET 24QFN
footprint 24-VFQFN Exposed Pad (QFN, 24-Leads, Body 4,00x4,00mm, Pitch 0,50mm, Thermal Pad 2,50x2,50mm, IPC Medium Density)
pins: 1 VDD2A, 2 LED2_NINTSEL, 3 LED1/REGOFF, 4 XTAL2, 5 XTAL1/CLKIN, 6 VDDCR, 7 RXD1/MODE1, 8 RXD0/MODE0, 9 VDDIO, 10 RXER/PHYAD0, 11 CRS_DV/MODE2, 12 MDIO, 13 MDC, 14 NINT/REFCLKO, 15 NRST, 16 TXEN, 17 TXD0, 18 TXD1, 19 VDD1A, 20 TXN, 21 TXP, 22 RXN, 23 RXP, 24 RBIAS, 25 GND

## Laton
designator M?, comment Sujecion a caño de laton
footprint Laton_4.75x0.5x5
footprint Laton_4.75x0.5x10
pins: 1

## LCD1602
designator LCD?, comment LCD WINSTAR
WINSTAR P/N: WH1602L1
footprint LCD1602_122x44
pins: 1 VSS, 2 VDD, 3 Vcon, 4 RS, 5 R/~{W}, 6 E, 7 DB0, 8 DB1, 9 DB2, 10 DB3, 11 DB4, 12 DB5, 13 DB6, 14 DB7, 15 A, 16 K

## LCD2004
designator LCD?, comment LCD WINSTAR
Winstar WH2004L-YGB-STV
footprint LCD2004 20x4 (Winstar WH2004L-YGB-STV)
pins: 1 VSS, 2 VDD, 3 Vcon, 4 RS, 5 R/~{W}, 6 E, 7 DB0, 8 DB1, 9 DB2, 10 DB3, 11 DB4, 12 DB5, 13 DB6, 14 DB7, 15 A, 16 K, 17 NC/Vee, 18 NC

## Led
designator D?, comment Diodo LED
footprint LED0805
footprint LED1206
footprint LED0805_ConPorta
footprint LED1206_conporta
footprint LED0805_ConPorta90
footprint LED0805_ConPorta270
pins: A 36, K 37

## LED_45
designator D, comment RED LED
footprint LED0805
footprint LED0805_ConPorta
footprint LED1206
footprint LED1206_conporta
pins: A, K

## LED_RGB
designator D?, comment Led RGB
CREE LED P/N: CLV1L-FKB-CHMMQEHBB7673673CT-ND / CREE LED P/N: CLMVC-FKA-CL1D1L71BB7C3C3CT-ND
footprint 4-plcc
footprint 4-PLCC-LENS
pins: A 20, B 19, G 18, R 17

## LM75BD
designator U?
I2C TEMPERATURE SENSOR
footprint SO8W
footprint TSSOP8
pins: 1 SDA, 2 SCL, 3 OS, 4 GND, 5 A2, 6 A1, 7 A0, 8 VCC

## LM78XX
designator U?, comment 78XX
Regulador de tension positiva
footprint TO-220 H
footprint TO-220 V
footprint TO-220 H - DISIPADOR
footprint TO92
footprint dpak
footprint d2pak
footprint SOT223
pins: 1 Vin, 2 GND, 3 Vout, 4 GND

## LM78XX_1
designator U?, comment NCP1117LPST33T3G
PMIC - reguladores de voltaje lineal Positivo Fija 1 Salida 1A SOT-223
footprint TO-220 H
footprint TO-220 V
footprint TO-220 H - DISIPADOR
footprint TO92
footprint dpak
footprint d2pak
footprint SOT223
pins: 1 GND, 2 Vout, 3 Vin, 4 GND

## LM317
designator U?
IC REG ADJ 1.5A 3 TERM TO-220
footprint TO-220 H
footprint TO-220 V
footprint TO-220 H - DISIPADOR
pins: 1 ADJ, 2 VOut, 3 VIn

## LM358
designator U?
footprint DIP8
part A pins: 1 OUT A, 2 - A, 3 + A, 4 GND, 8 +V
part B pins: 5 + B, 6 - B, 7 OUT B

## LM393
designator U?
Comparator General Purpose CMOS, DTL, ECL, MOS, Open-Collector, TTL 8-SOIC
footprint SOIC8
part A pins: 1 OUT A, 2 - A, 3 + A, 4 GND, 8 +V
part B pins: 5 + B, 6 - B, 7 OUT B

## LM555
designator U?
Timer
footprint SO8 (Footprint not found)
footprint DIP8
pins: 1 GND, 2 TRIGGER, 3 OUT, 4 RESET, 5 C VOLTAJE, 6 THRESHOLD, 7 DISCHARGE, 8 VCC

## LM741
designator U?
LM741 Operational Amplifier
footprint DIP8
pins: 1 -RG, 2 -IN, 3 +IN, 4 -VS, 5 +RG, 6 OUT, 7 +VS

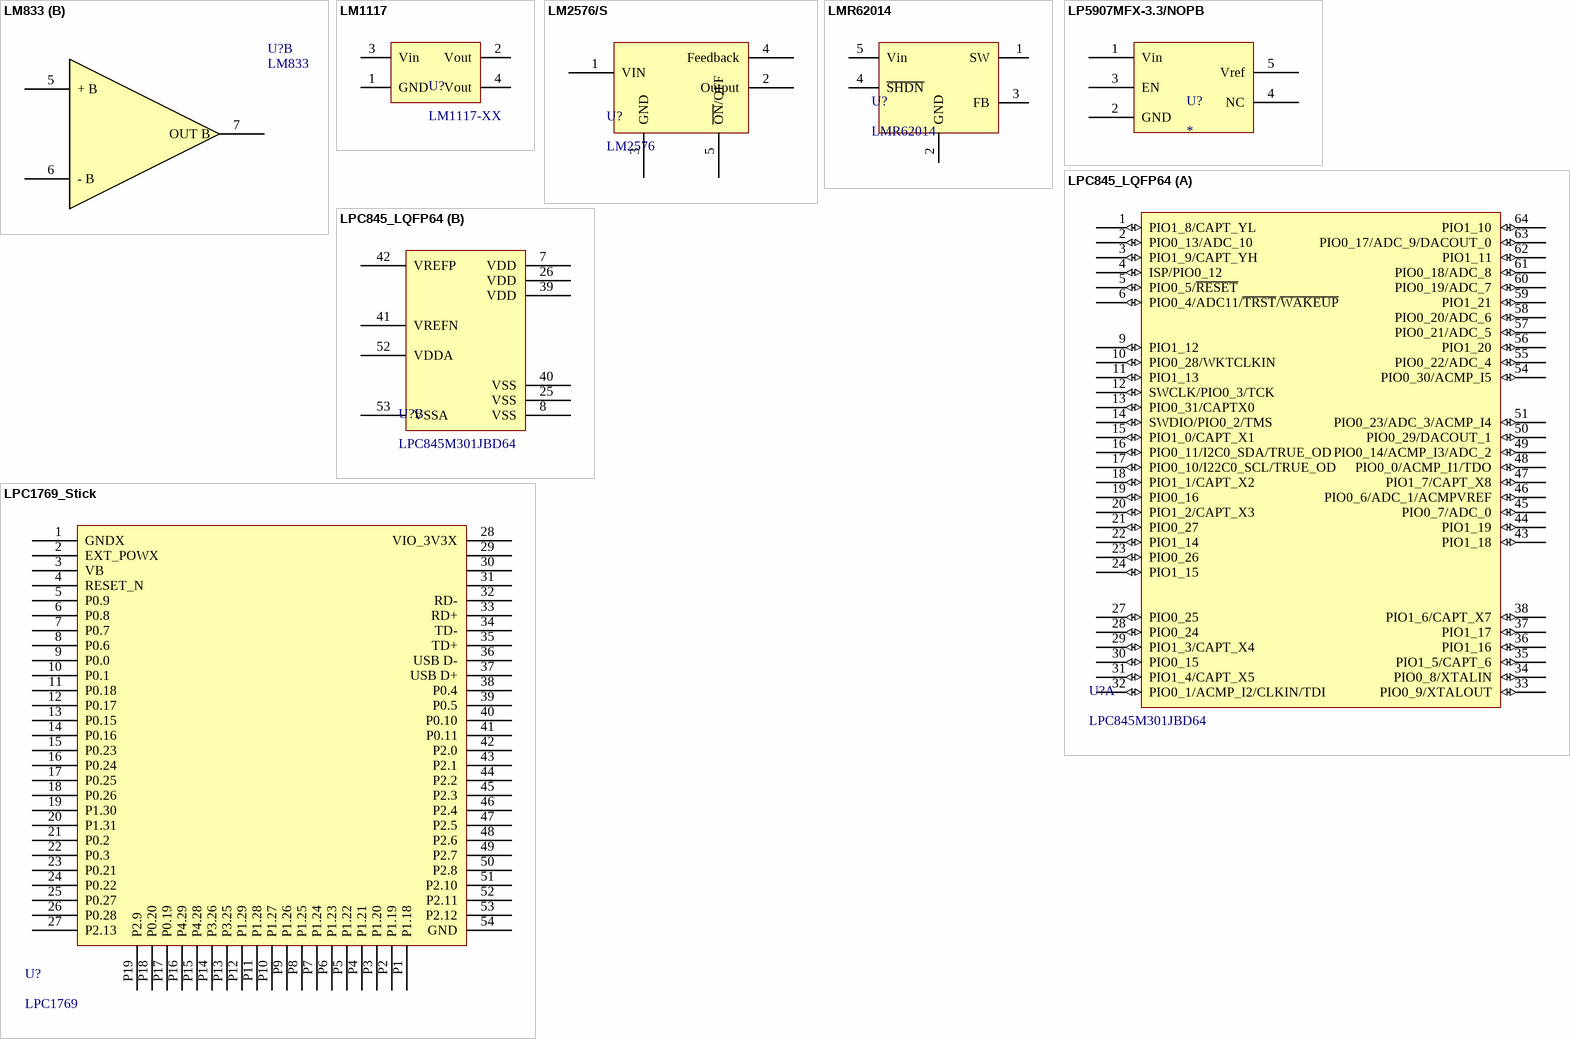
[diagram p3: symbols LM833 to LPC1769_Stick]

## LM833
designator U?
Dual Audio Operational Amplifier
footprint DIP8
part A pins: 1 OUT A, 2 - A, 3 + A, 4 GND, 8 +V
part B pins: 5 + B, 6 - B, 7 OUT B

## LM1117
designator U?, comment LM1117-XX
Regulador de tension positiva LM1117
footprint TO-220 V
footprint SOT223
footprint DPAK
footprint D2PAK
pins: 1 GND, 2 Vout, 3 Vin, 4 Vout

## LM2576/S
designator U?, comment LM2576
footprint d2pak-5 (D2-PAK, 6-Pads, Body 7,77x8,48mm (max), IPC Medium Density)
footprint TO-220_5 H
pins: 1 VIN, 2 Output, 3 GND, 4 Feedback, 5 ~{ON}/OFF

## LMR62014
designator U?
footprint SOT23-5
pins: 2 GND, 3 FB, 4 ~{SHDN}, 5 Vin,  1 SW

## LP5907MFX-3.3/NOPB
designator U?
footprint SOT23-5
pins: 1 Vin, 2 GND, 3 EN, 4 NC, 5 Vref

## LPC845_LQFP64
designator U?, comment LPC845M301JBD64
footprint LQFP64
part A pins: 1 PIO1_8/CAPT_YL (io), 2 PIO0_13/ADC_10 (io), 3 PIO1_9/CAPT_YH (io), 4 ISP/PIO0_12 (io), 5 PIO0_5/~{RESET} (io), 6 PIO0_4/ADC11/~{TRST}/~{WAKEUP} (io), 9 PIO1_12 (io), 10 PIO0_28/WKTCLKIN (io), 11 PIO1_13 (io), 12 SWCLK/PIO0_3/TCK (io), 13 PIO0_31/CAPTX0 (io), 14 SWDIO/PIO0_2/TMS (io), 15 PIO1_0/CAPT_X1 (io), 16 PIO0_11/I2C0_SDA/TRUE_OD (io), 17 PIO0_10/I22C0_SCL/TRUE_OD (io), 18 PIO1_1/CAPT_X2 (io), 19 PIO0_16 (io), 20 PIO1_2/CAPT_X3 (io), 21 PIO0_27 (io), 22 PIO1_14 (io), 23 PIO0_26 (io), 24 PIO1_15 (io), 27 PIO0_25 (io), 28 PIO0_24 (io), 29 PIO1_3/CAPT_X4 (io), 30 PIO0_15 (io), 31 PIO1_4/CAPT_X5 (io), 32 PIO0_1/ACMP_I2/CLKIN/TDI (io), 33 PIO0_9/XTALOUT (io), 34 PIO0_8/XTALIN (io), 35 PIO1_5/CAPT_6 (io), 36 PIO1_16 (io), 37 PIO1_17 (io), 38 PIO1_6/CAPT_X7 (io), 43 PIO1_18 (io), 44 PIO1_19 (io), 45 PIO0_7/ADC_0 (io), 46 PIO0_6/ADC_1/ACMPVREF (io), 47 PIO1_7/CAPT_X8 (io), 48 PIO0_0/ACMP_I1/TDO (io), 49 PIO0_14/ACMP_I3/ADC_2 (io), 50 PIO0_29/DACOUT_1 (io), 51 PIO0_23/ADC_3/ACMP_I4 (io), 54 PIO0_30/ACMP_I5 (io), 55 PIO0_22/ADC_4 (io), 56 PIO1_20 (io), 57 PIO0_21/ADC_5 (io), 58 PIO0_20/ADC_6 (io), 59 PIO1_21 (io), 60 PIO0_19/ADC_7 (io), 61 PIO0_18/ADC_8 (io), 62 PIO1_11 (io), 63 PIO0_17/ADC_9/DACOUT_0 (io), 64 PIO1_10 (io)
part B pins: 7 VDD (power), 8 VSS (power), 25 VSS (power), 26 VDD (power), 39 VDD (power), 40 VSS (power), 41 VREFN (power), 42 VREFP (power), 52 VDDA (power), 53 VSSA (power)

## LPC1769_Stick
designator U?, comment LPC1769
footprint LPC1769-STICK_D
pins: 1 GNDX, 2 EXT_POWX, 3 VB, 4 RESET_N, 5 P0.9, 6 P0.8, 7 P0.7, 8 P0.6, 9 P0.0, 10 P0.1, 11 P0.18, 12 P0.17, 13 P0.15, 14 P0.16, 15 P0.23, 16 P0.24, 17 P0.25, 18 P0.26, 19 P1.30, 20 P1.31, 21 P0.2, 22 P0.3, 23 P0.21, 24 P0.22, 25 P0.27, 26 P0.28, 27 P2.13, 28 VIO_3V3X, 29, 30, 31, 32 RD-, 33 RD+, 34 TD-, 35 TD+, 36 USB D-, 37 USB D+, 38 P0.4, 39 P0.5, 40 P0.10, 41 P0.11, 42 P2.0, 43 P2.1, 44 P2.2, 45 P2.3, 46 P2.4, 47 P2.5, 48 P2.6, 49 P2.7, 50 P2.8, 51 P2.10, 52 P2.11, 53 P2.12, 54 GND, P1 P1.18, P2 P1.19, P3 P1.20, P4 P1.21, P5 P1.22, P6 P1.23, P7 P1.24, P8 P1.25, P9 P1.26, P10 P1.27, P11 P1.28, P12 P1.29, P13 P3.25, P14 P3.26, P15 P4.28, P16 P4.29, P17 P0.19, P18 P0.20, P19 P2.9

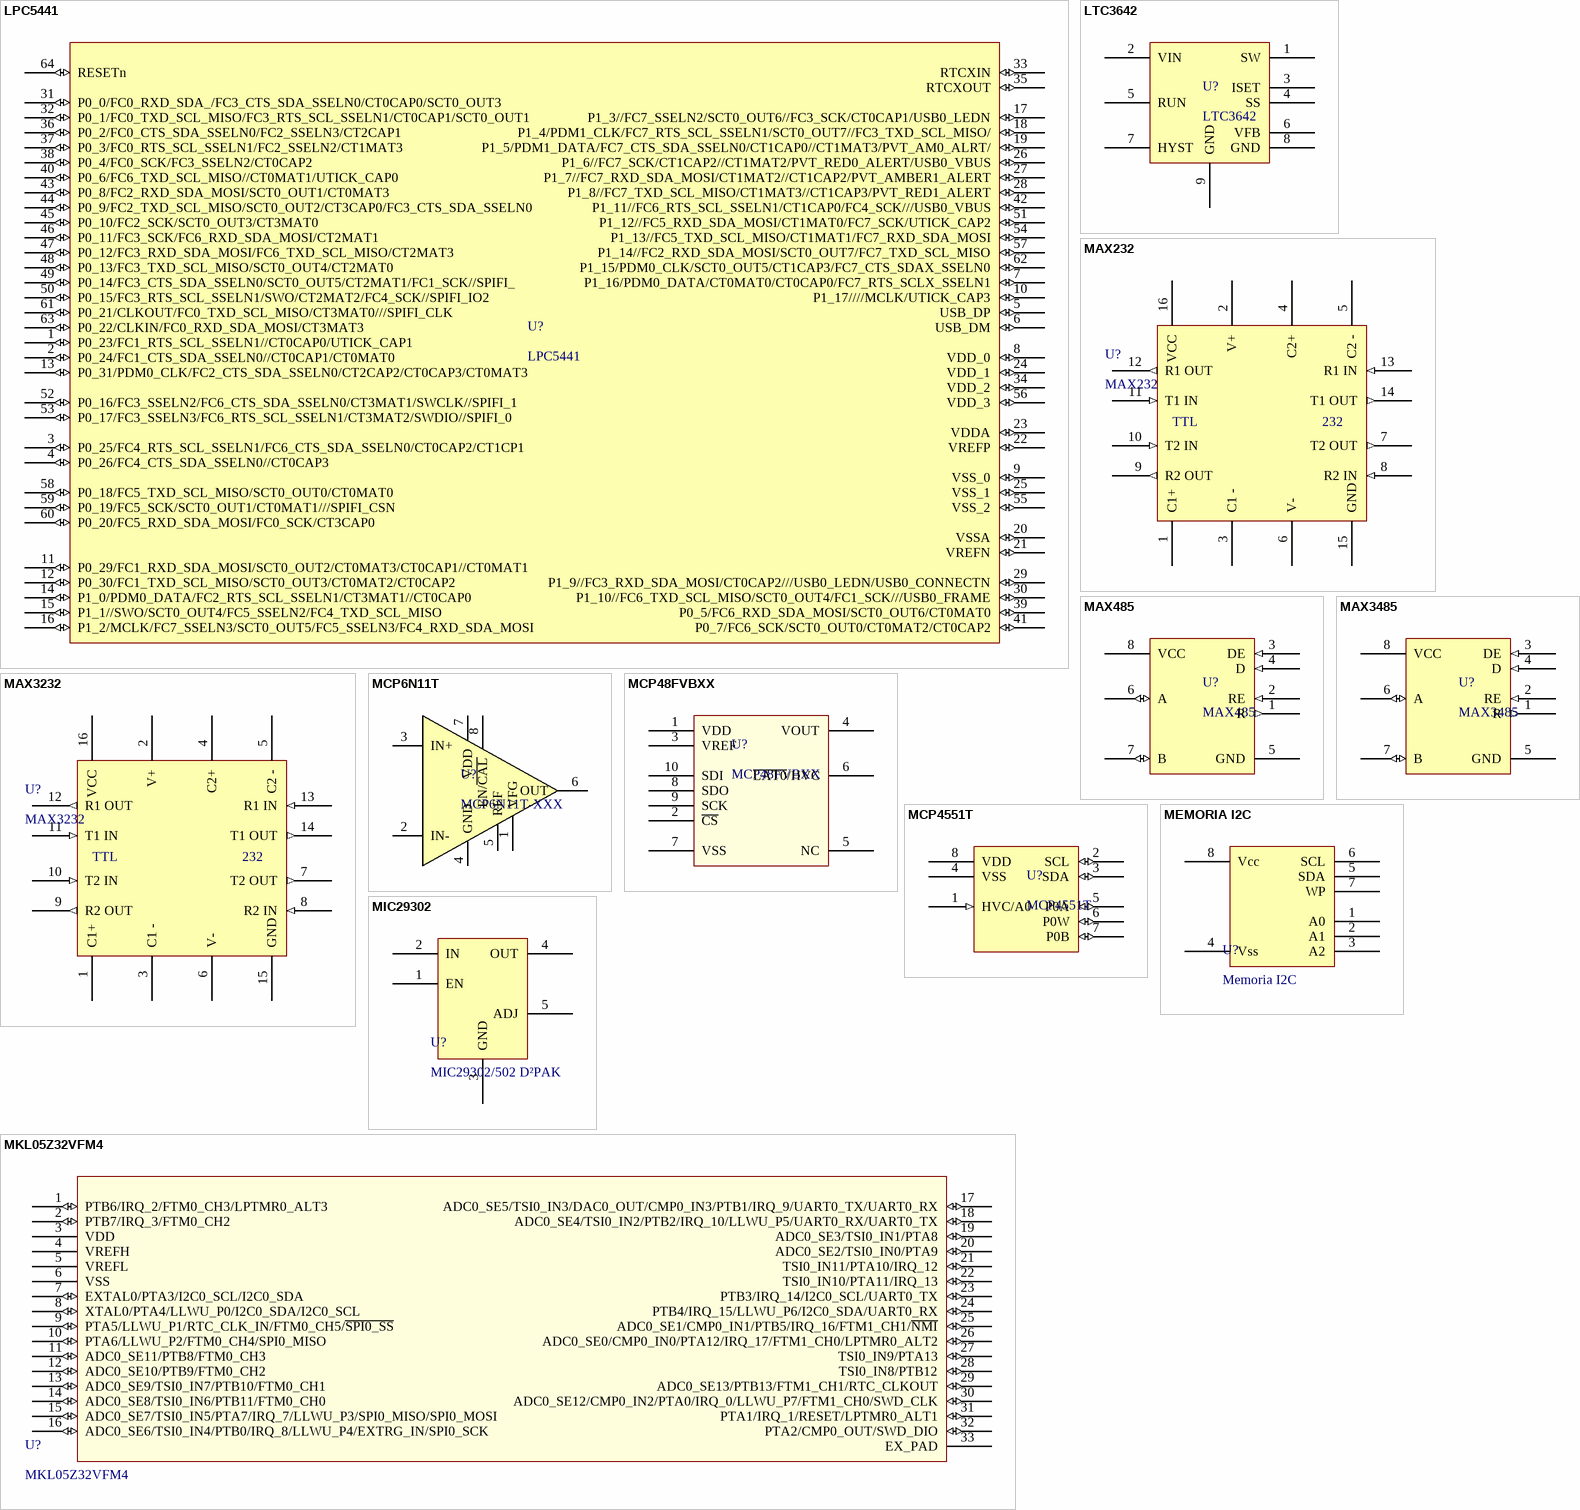
[diagram p4: symbols LPC5441 to MKL05Z32VFM4]

## LPC5441
designator U?
footprint LQFP64
pins: 1 P0_23/FC1_RTS_SCL_SSELN1//CT0CAP0/UTICK_CAP1 (io), 2 P0_24/FC1_CTS_SDA_SSELN0//CT0CAP1/CT0MAT0 (io), 3 P0_25/FC4_RTS_SCL_SSELN1/FC6_CTS_SDA_SSELN0/CT0CAP2/CT1CP1 (io), 4 P0_26/FC4_CTS_SDA_SSELN0//CT0CAP3 (io), 5 USB_DP (io), 6 USB_DM (io), 7 P1_16/PDM0_DATA/CT0MAT0/CT0CAP0/FC7_RTS_SCLX_SSELN1 (io), 8 VDD_0 (io), 9 VSS_0 (io), 10 P1_17////MCLK/UTICK_CAP3 (io), 11 P0_29/FC1_RXD_SDA_MOSI/SCT0_OUT2/CT0MAT3/CT0CAP1//CT0MAT1 (io), 12 P0_30/FC1_TXD_SCL_MISO/SCT0_OUT3/CT0MAT2/CT0CAP2 (io), 13 P0_31/PDM0_CLK/FC2_CTS_SDA_SSELN0/CT2CAP2/CT0CAP3/CT0MAT3 (io), 14 P1_0/PDM0_DATA/FC2_RTS_SCL_SSELN1/CT3MAT1//CT0CAP0 (io), 15 P1_1//SWO/SCT0_OUT4/FC5_SSELN2/FC4_TXD_SCL_MISO (io), 16 P1_2/MCLK/FC7_SSELN3/SCT0_OUT5/FC5_SSELN3/FC4_RXD_SDA_MOSI (io), 17 P1_3//FC7_SSELN2/SCT0_OUT6//FC3_SCK/CT0CAP1/USB0_LEDN (io), 18 P1_4/PDM1_CLK/FC7_RTS_SCL_SSELN1/SCT0_OUT7//FC3_TXD_SCL_MISO/ (io), 19 P1_5/PDM1_DATA/FC7_CTS_SDA_SSELN0/CT1CAP0//CT1MAT3/PVT_AM0_ALRT/ (io), 20 VSSA (io), 21 VREFN (io), 22 VREFP (io), 23 VDDA (io), 24 VDD_1 (io), 25 VSS_1 (io), 26 P1_6//FC7_SCK/CT1CAP2//CT1MAT2/PVT_RED0_ALERT/USB0_VBUS (io), 27 P1_7//FC7_RXD_SDA_MOSI/CT1MAT2//CT1CAP2/PVT_AMBER1_ALERT (io), 28 P1_8//FC7_TXD_SCL_MISO/CT1MAT3//CT1CAP3/PVT_RED1_ALERT (io), 29 P1_9//FC3_RXD_SDA_MOSI/CT0CAP2///USB0_LEDN/USB0_CONNECTN (io), 30 P1_10//FC6_TXD_SCL_MISO/SCT0_OUT4/FC1_SCK///USB0_FRAME (io), 31 P0_0/FC0_RXD_SDA_/FC3_CTS_SDA_SSELN0/CT0CAP0/SCT0_OUT3 (io), 32 P0_1/FC0_TXD_SCL_MISO/FC3_RTS_SCL_SSELN1/CT0CAP1/SCT0_OUT1 (io), 33 RTCXIN (io), 34 VDD_2 (io), 35 RTCXOUT (io), 36 P0_2/FC0_CTS_SDA_SSELN0/FC2_SSELN3/CT2CAP1 (io), 37 P0_3/FC0_RTS_SCL_SSELN1/FC2_SSELN2/CT1MAT3 (io), 38 P0_4/FC0_SCK/FC3_SSELN2/CT0CAP2 (io), 39 P0_5/FC6_RXD_SDA_MOSI/SCT0_OUT6/CT0MAT0 (io), 40 P0_6/FC6_TXD_SCL_MISO//CT0MAT1/UTICK_CAP0 (io), 41 P0_7/FC6_SCK/SCT0_OUT0/CT0MAT2/CT0CAP2 (io), 42 P1_11//FC6_RTS_SCL_SSELN1/CT1CAP0/FC4_SCK///USB0_VBUS (io), 43 P0_8/FC2_RXD_SDA_MOSI/SCT0_OUT1/CT0MAT3 (io), 44 P0_9/FC2_TXD_SCL_MISO/SCT0_OUT2/CT3CAP0/FC3_CTS_SDA_SSELN0 (io), 45 P0_10/FC2_SCK/SCT0_OUT3/CT3MAT0 (io), 46 P0_11/FC3_SCK/FC6_RXD_SDA_MOSI/CT2MAT1 (io), 47 P0_12/FC3_RXD_SDA_MOSI/FC6_TXD_SCL_MISO/CT2MAT3 (io), 48 P0_13/FC3_TXD_SCL_MISO/SCT0_OUT4/CT2MAT0 (io), 49 P0_14/FC3_CTS_SDA_SSELN0/SCT0_OUT5/CT2MAT1/FC1_SCK//SPIFI_ (io), 50 P0_15/FC3_RTS_SCL_SSELN1/SWO/CT2MAT2/FC4_SCK//SPIFI_IO2 (io), 51 P1_12//FC5_RXD_SDA_MOSI/CT1MAT0/FC7_SCK/UTICK_CAP2 (io), 52 P0_16/FC3_SSELN2/FC6_CTS_SDA_SSELN0/CT3MAT1/SWCLK//SPIFI_1 (io), 53 P0_17/FC3_SSELN3/FC6_RTS_SCL_SSELN1/CT3MAT2/SWDIO//SPIFI_0 (io), 54 P1_13//FC5_TXD_SCL_MISO/CT1MAT1/FC7_RXD_SDA_MOSI (io), 55 VSS_2 (io), 56 VDD_3 (io), 57 P1_14//FC2_RXD_SDA_MOSI/SCT0_OUT7/FC7_TXD_SCL_MISO (io), 58 P0_18/FC5_TXD_SCL_MISO/SCT0_OUT0/CT0MAT0 (io), 59 P0_19/FC5_SCK/SCT0_OUT1/CT0MAT1///SPIFI_CSN (io), 60 P0_20/FC5_RXD_SDA_MOSI/FC0_SCK/CT3CAP0 (io), 61 P0_21/CLKOUT/FC0_TXD_SCL_MISO/CT3MAT0///SPIFI_CLK (io), 62 P1_15/PDM0_CLK/SCT0_OUT5/CT1CAP3/FC7_CTS_SDAX_SSELN0 (io), 63 P0_22/CLKIN/FC0_RXD_SDA_MOSI/CT3MAT3 (io), 64 RESETn (io)

## LTC3642
designator U?
Switching
pins: 1 SW, 2 VIN, 3 ISET, 4 SS, 5 RUN, 6 VFB, 7 HYST, 8 GND, 9 GND

## MAX232
designator U?
IC TXRX RS232 1MBPS LP
footprint SOIC16N
footprint DIP16
pins: 1 C1+, 2 V+ (power), 3 C1 -, 4 C2+, 5 C2 -, 6 V- (power), 7 T2 OUT (out), 8 R2 IN (in), 9 R2 OUT (out), 10 T2 IN (in), 11 T1 IN (in), 12 R1 OUT (out), 13 R1 IN (in), 14 T1 OUT (out), 15 GND (power), 16 VCC (power)
text: TTL; 232

## MAX485
designator U?
IC TXRX 5V RS485/422 8 SOIC
footprint SO8 (Footprint not found)
pins: 1 R (out), 2 RE (in), 3 DE (in), 4 D (in), 5 GND (power), 6 A (io), 7 B (io), 8 VCC (power)

## MAX3232
designator U?
IC TXRX RS232 1MBPS LP 16-SOIC (3 V ~ 5.5 V); Part Number: MAX3232CSE
footprint SOIC16N
footprint DIP16
pins: 1 C1+, 2 V+ (power), 3 C1 -, 4 C2+, 5 C2 -, 6 V- (power), 7 T2 OUT (out), 8 R2 IN (in), 9 R2 OUT (out), 10 T2 IN (in), 11 T1 IN (in), 12 R1 OUT (out), 13 R1 IN (in), 14 T1 OUT (out), 15 GND (power), 16 VCC (power)
text: TTL; 232

## MAX3485
designator U?
IC TXRX 3.3V RS485/422 8 SOIC
footprint SO8 (Footprint not found)
pins: 1 R (out), 2 RE (in), 3 DE (in), 4 D (in), 5 GND (power), 6 A (io), 7 B (io), 8 VCC (power)

## MCP6N11T
designator U?, comment MCP6N11T-XXX
footprint SOIC8
pins: 1 VFG, 2 IN-, 3 IN+, 4 GND, 5 REF, 6 OUT, 7 VDD, 8 EN/~{CAL}

## MCP48FVBXX
designator U?
8-/10-/12-Bit Single/Dual Voltage Output Volatile Digital-to-Analog Converters with SPI Interface
footprint MSOP10
pins: 1 VDD, 2 ~{CS}, 3 VREF, 4 VOUT, 5 NC, 6 ~{LAT0}/HVC, 7 VSS, 8 SDO, 9 SCK, 10 SDI

## MCP4551T
designator U?
Digital Potentiometer 50k Ohm 1 Circuit 257 Taps I²C Interface 8-DFN (3x3)
footprint SO8 (Footprint not found)
footprint SO8W
pins: 1 HVC/A0 (in), 2 SCL (io), 3 SDA (io), 4 VSS (power), 5 P0A (io), 6 P0W (io), 7 P0B (io), 8 VDD (power)

## MEMORIA I2C
designator U?, comment Memoria I2C
footprint SOIC8
pins: 1 A0, 2 A1, 3 A2, 4 Vss, 5 SDA, 6 SCL, 7 WP, 8 Vcc

## MIC29302
designator U?, comment MIC29302/502 D²PAK
footprint D2PAK-5 (D2-PAK, 6-Pads, Body 7,77x8,48mm (max), IPC Medium Density)
pins: 1 EN, 2 IN, 3 GND, 4 OUT, 5 ADJ

## MKL05Z32VFM4
designator U?
footprint 1311-02_N (32-Pin Quad Flat No-Lead 0.5 mm Pitch, IPC Medium Density)
footprint 1311-02_L (32-Pin Quad Flat No-Lead 0.5 mm Pitch, IPC High Density)
footprint 1311-02_M (32-Pin Quad Flat No-Lead 0.5 mm Pitch, IPC Low Density)
pins: 1 PTB6/IRQ_2/FTM0_CH3/LPTMR0_ALT3 (io), 2 PTB7/IRQ_3/FTM0_CH2 (io), 3 VDD (power), 4 VREFH (power), 5 VREFL (power), 6 VSS (power), 7 EXTAL0/PTA3/I2C0_SCL/I2C0_SDA (io), 8 XTAL0/PTA4/LLWU_P0/I2C0_SDA/I2C0_SCL (io), 9 PTA5/LLWU_P1/RTC_CLK_IN/FTM0_CH5/~{SPI0_SS} (io), 10 PTA6/LLWU_P2/FTM0_CH4/SPI0_MISO (io), 11 ADC0_SE11/PTB8/FTM0_CH3 (io), 12 ADC0_SE10/PTB9/FTM0_CH2 (io), 13 ADC0_SE9/TSI0_IN7/PTB10/FTM0_CH1 (io), 14 ADC0_SE8/TSI0_IN6/PTB11/FTM0_CH0 (io), 15 ADC0_SE7/TSI0_IN5/PTA7/IRQ_7/LLWU_P3/SPI0_MISO/SPI0_MOSI (io), 16 ADC0_SE6/TSI0_IN4/PTB0/IRQ_8/LLWU_P4/EXTRG_IN/SPI0_SCK (io), 17 ADC0_SE5/TSI0_IN3/DAC0_OUT/CMP0_IN3/PTB1/IRQ_9/UART0_TX/UART0_RX (io), 18 ADC0_SE4/TSI0_IN2/PTB2/IRQ_10/LLWU_P5/UART0_RX/UART0_TX (io), 19 ADC0_SE3/TSI0_IN1/PTA8 (io), 20 ADC0_SE2/TSI0_IN0/PTA9 (io), 21 TSI0_IN11/PTA10/IRQ_12 (io), 22 TSI0_IN10/PTA11/IRQ_13 (io), 23 PTB3/IRQ_14/I2C0_SCL/UART0_TX (io), 24 PTB4/IRQ_15/LLWU_P6/I2C0_SDA/UART0_RX (io), 25 ADC0_SE1/CMP0_IN1/PTB5/IRQ_16/FTM1_CH1/~{NMI} (io), 26 ADC0_SE0/CMP0_IN0/PTA12/IRQ_17/FTM1_CH0/LPTMR0_ALT2 (io), 27 TSI0_IN9/PTA13 (io), 28 TSI0_IN8/PTB12 (io), 29 ADC0_SE13/PTB13/FTM1_CH1/RTC_CLKOUT (io), 30 ADC0_SE12/CMP0_IN2/PTA0/IRQ_0/LLWU_P7/FTM1_CH0/SWD_CLK (io), 31 PTA1/IRQ_1/RESET/LPTMR0_ALT1 (io), 32 PTA2/CMP0_OUT/SWD_DIO (io), 33 EX_PAD (power)

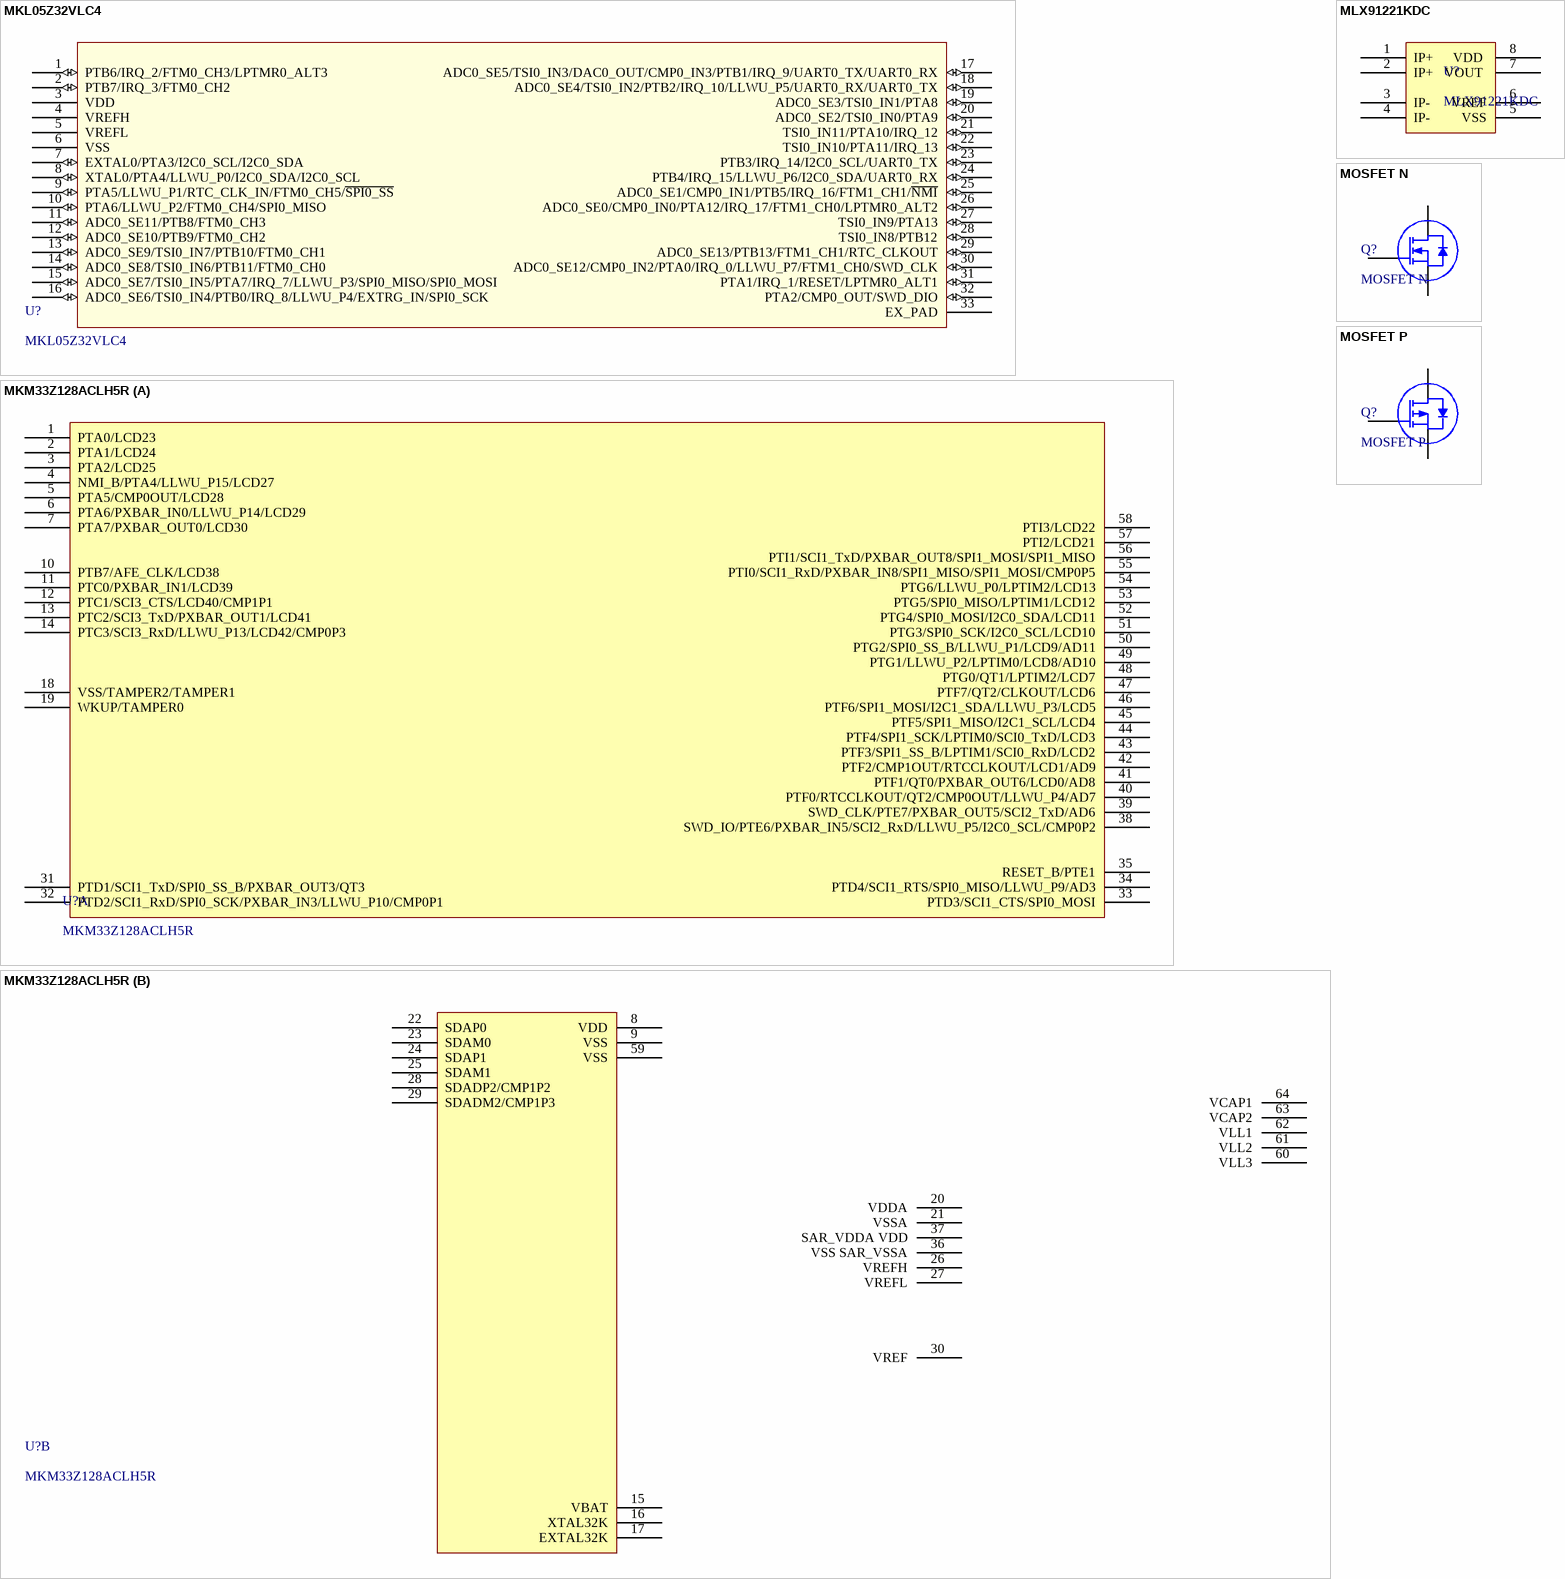
[diagram p5: symbols MKL05Z32VLC4 to MOSFET P]

## MKL05Z32VLC4
designator U?
footprint 873A-02_L (32-Pin Thin Quad Flat Pack 0.8 mm Pitch, IPC High Density)
footprint 873A-02_N (32-Pin Thin Quad Flat Pack 0.8 mm Pitch, IPC Medium Density)
footprint 873A-02_M (32-Pin Thin Quad Flat Pack 0.8 mm Pitch, IPC Low Density)
pins: 1 PTB6/IRQ_2/FTM0_CH3/LPTMR0_ALT3 (io), 2 PTB7/IRQ_3/FTM0_CH2 (io), 3 VDD (power), 4 VREFH (power), 5 VREFL (power), 6 VSS (power), 7 EXTAL0/PTA3/I2C0_SCL/I2C0_SDA (io), 8 XTAL0/PTA4/LLWU_P0/I2C0_SDA/I2C0_SCL (io), 9 PTA5/LLWU_P1/RTC_CLK_IN/FTM0_CH5/~{SPI0_SS} (io), 10 PTA6/LLWU_P2/FTM0_CH4/SPI0_MISO (io), 11 ADC0_SE11/PTB8/FTM0_CH3 (io), 12 ADC0_SE10/PTB9/FTM0_CH2 (io), 13 ADC0_SE9/TSI0_IN7/PTB10/FTM0_CH1 (io), 14 ADC0_SE8/TSI0_IN6/PTB11/FTM0_CH0 (io), 15 ADC0_SE7/TSI0_IN5/PTA7/IRQ_7/LLWU_P3/SPI0_MISO/SPI0_MOSI (io), 16 ADC0_SE6/TSI0_IN4/PTB0/IRQ_8/LLWU_P4/EXTRG_IN/SPI0_SCK (io), 17 ADC0_SE5/TSI0_IN3/DAC0_OUT/CMP0_IN3/PTB1/IRQ_9/UART0_TX/UART0_RX (io), 18 ADC0_SE4/TSI0_IN2/PTB2/IRQ_10/LLWU_P5/UART0_RX/UART0_TX (io), 19 ADC0_SE3/TSI0_IN1/PTA8 (io), 20 ADC0_SE2/TSI0_IN0/PTA9 (io), 21 TSI0_IN11/PTA10/IRQ_12 (io), 22 TSI0_IN10/PTA11/IRQ_13 (io), 23 PTB3/IRQ_14/I2C0_SCL/UART0_TX (io), 24 PTB4/IRQ_15/LLWU_P6/I2C0_SDA/UART0_RX (io), 25 ADC0_SE1/CMP0_IN1/PTB5/IRQ_16/FTM1_CH1/~{NMI} (io), 26 ADC0_SE0/CMP0_IN0/PTA12/IRQ_17/FTM1_CH0/LPTMR0_ALT2 (io), 27 TSI0_IN9/PTA13 (io), 28 TSI0_IN8/PTB12 (io), 29 ADC0_SE13/PTB13/FTM1_CH1/RTC_CLKOUT (io), 30 ADC0_SE12/CMP0_IN2/PTA0/IRQ_0/LLWU_P7/FTM1_CH0/SWD_CLK (io), 31 PTA1/IRQ_1/RESET/LPTMR0_ALT1 (io), 32 PTA2/CMP0_OUT/SWD_DIO (io), 33 EX_PAD (power)

## MKM33Z128ACLH5R
designator U?
part A pins: 1 PTA0/LCD23, 2 PTA1/LCD24, 3 PTA2/LCD25, 4 NMI_B/PTA4/LLWU_P15/LCD27, 5 PTA5/CMP0OUT/LCD28, 6 PTA6/PXBAR_IN0/LLWU_P14/LCD29, 7 PTA7/PXBAR_OUT0/LCD30, 10 PTB7/AFE_CLK/LCD38, 11 PTC0/PXBAR_IN1/LCD39, 12 PTC1/SCI3_CTS/LCD40/CMP1P1, 13 PTC2/SCI3_TxD/PXBAR_OUT1/LCD41, 14 PTC3/SCI3_RxD/LLWU_P13/LCD42/CMP0P3, 18 VSS/TAMPER2/TAMPER1, 19 WKUP/TAMPER0, 31 PTD1/SCI1_TxD/SPI0_SS_B/PXBAR_OUT3/QT3, 32 PTD2/SCI1_RxD/SPI0_SCK/PXBAR_IN3/LLWU_P10/CMP0P1, 33 PTD3/SCI1_CTS/SPI0_MOSI, 34 PTD4/SCI1_RTS/SPI0_MISO/LLWU_P9/AD3, 35 RESET_B/PTE1, 38 SWD_IO/PTE6/PXBAR_IN5/SCI2_RxD/LLWU_P5/I2C0_SCL/CMP0P2, 39 SWD_CLK/PTE7/PXBAR_OUT5/SCI2_TxD/AD6, 40 PTF0/RTCCLKOUT/QT2/CMP0OUT/LLWU_P4/AD7, 41 PTF1/QT0/PXBAR_OUT6/LCD0/AD8, 42 PTF2/CMP1OUT/RTCCLKOUT/LCD1/AD9, 43 PTF3/SPI1_SS_B/LPTIM1/SCI0_RxD/LCD2, 44 PTF4/SPI1_SCK/LPTIM0/SCI0_TxD/LCD3, 45 PTF5/SPI1_MISO/I2C1_SCL/LCD4, 46 PTF6/SPI1_MOSI/I2C1_SDA/LLWU_P3/LCD5, 47 PTF7/QT2/CLKOUT/LCD6, 48 PTG0/QT1/LPTIM2/LCD7, 49 PTG1/LLWU_P2/LPTIM0/LCD8/AD10, 50 PTG2/SPI0_SS_B/LLWU_P1/LCD9/AD11, 51 PTG3/SPI0_SCK/I2C0_SCL/LCD10, 52 PTG4/SPI0_MOSI/I2C0_SDA/LCD11, 53 PTG5/SPI0_MISO/LPTIM1/LCD12, 54 PTG6/LLWU_P0/LPTIM2/LCD13, 55 PTI0/SCI1_RxD/PXBAR_IN8/SPI1_MISO/SPI1_MOSI/CMP0P5, 56 PTI1/SCI1_TxD/PXBAR_OUT8/SPI1_MOSI/SPI1_MISO, 57 PTI2/LCD21, 58 PTI3/LCD22
part B pins: 8 VDD, 9 VSS, 15 VBAT, 16 XTAL32K, 17 EXTAL32K, 20 VDDA, 21 VSSA, 22 SDAP0, 23 SDAM0, 24 SDAP1, 25 SDAM1, 26 VREFH, 27 VREFL, 28 SDADP2/CMP1P2, 29 SDADM2/CMP1P3, 30 VREF, 36 VSS SAR_VSSA, 37 SAR_VDDA VDD, 59 VSS, 60 VLL3, 61 VLL2, 62 VLL1, 63 VCAP2, 64 VCAP1

## MLX91221KDC
designator U?
Sensores de corriente 20A 1 canal Efecto Hall Bidireccional 8-SOIC (ancho 0.154", 3.90mm)
footprint SOIC8
pins: 1 IP+, 2 IP+, 3 IP-, 4 IP-, 5 VSS, 6 VREF, 7 VOUT , 8 VDD 

## MOSFET N
designator Q?
footprint SOT23
footprint TO-220 V
pins: 1 G, 2 D, 3 S

## MOSFET P
designator Q?
footprint SOT23
footprint TO-220 V
pins: 1 G, 2 D, 3 S

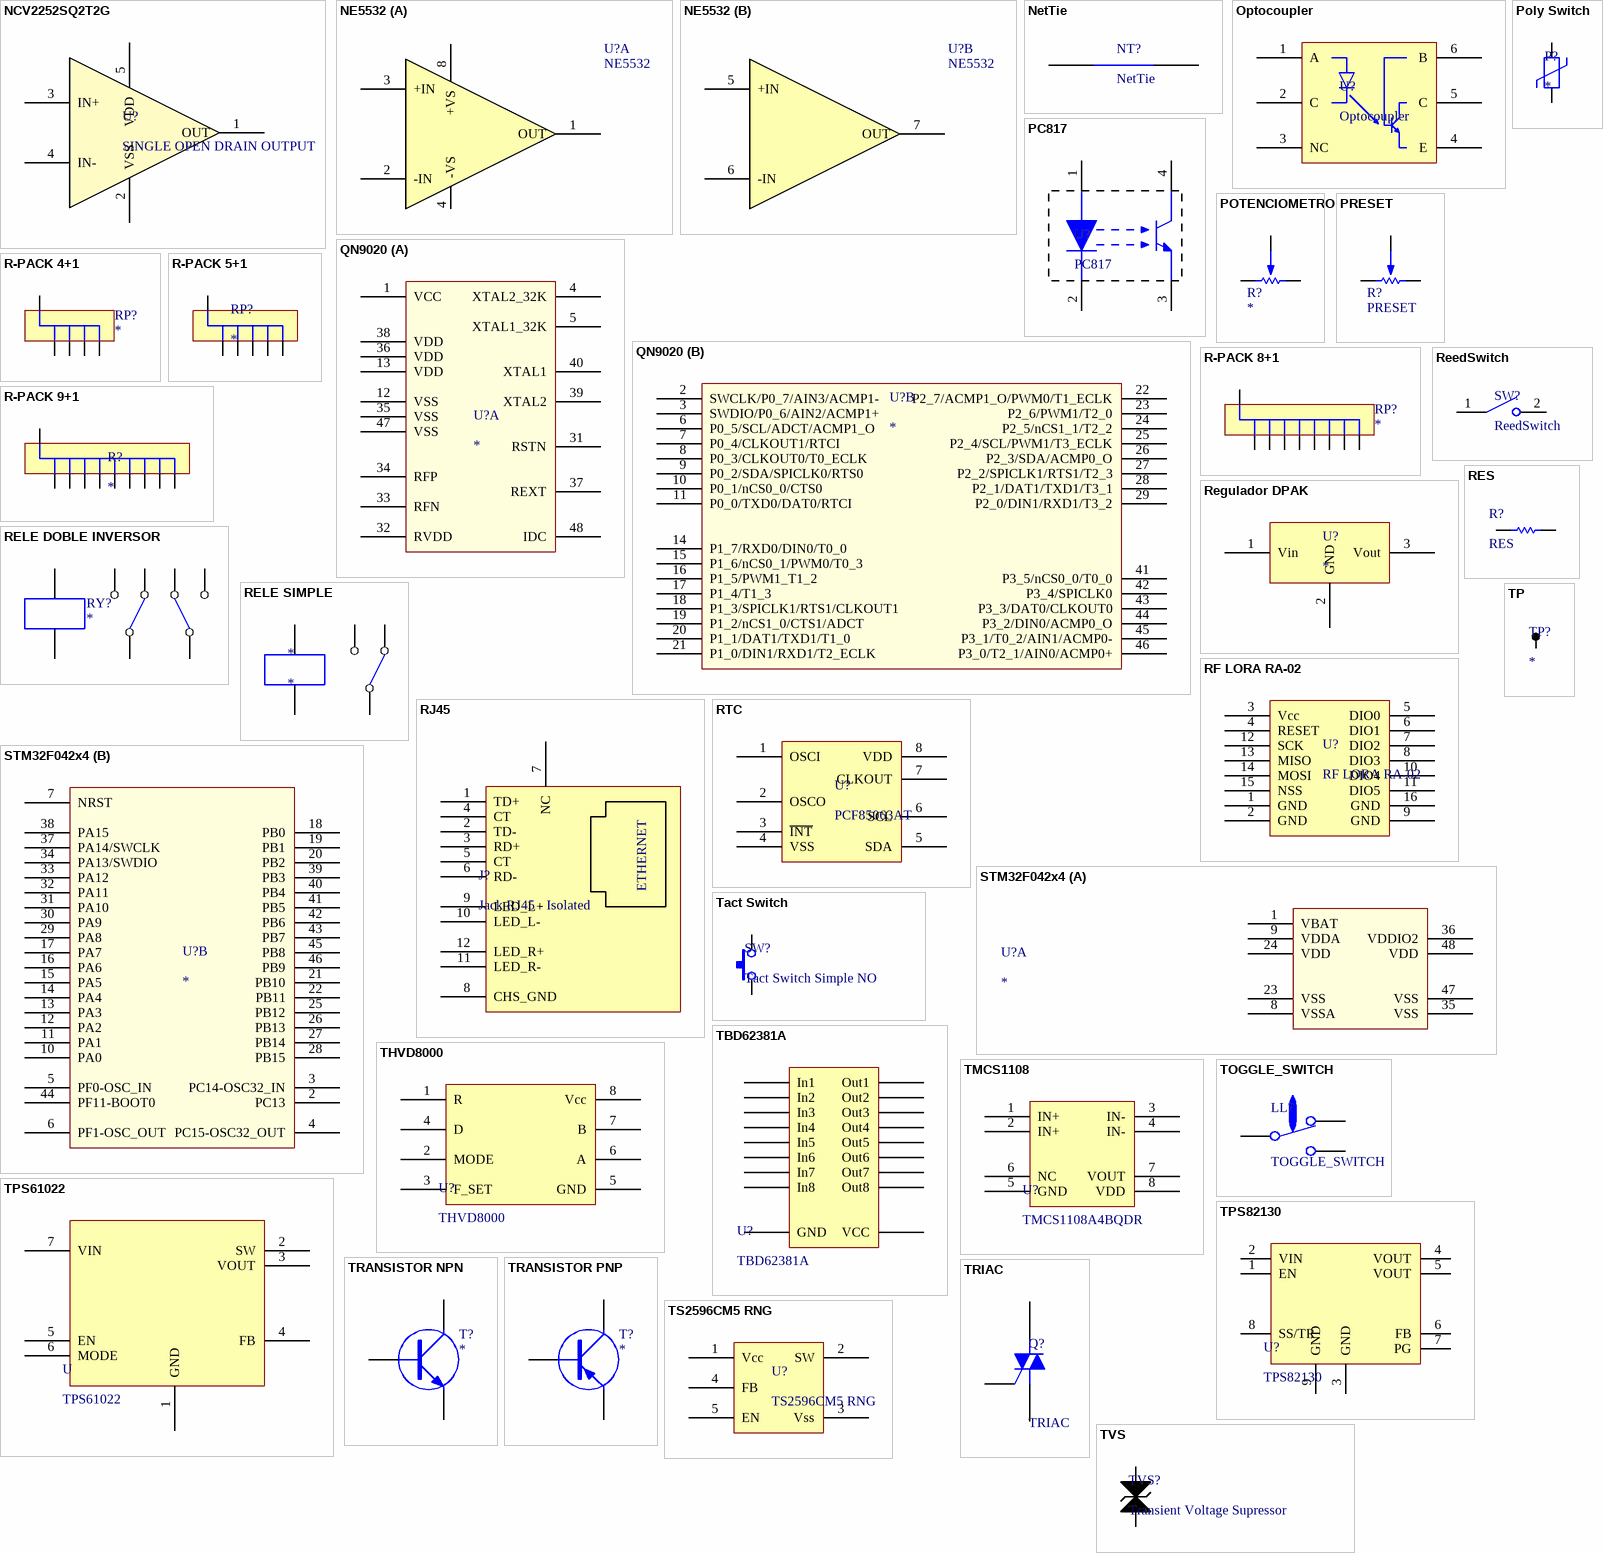
[diagram p6: symbols NCV2252SQ2T2G to TVS]

## NCV2252SQ2T2G
designator U?, comment SINGLE OPEN DRAIN OUTPUT
Comparadores Propósito general Drenaje abierto SC-88A (SC-70-5/SOT-353)
pins: 1 OUT, 2 VSS, 3 IN+, 4 IN-, 5 VDD (power)

## NE5532
designator U?
IC OPAMP DUAL LOW NOISE 8-DIP
footprint DIP8
footprint SOIC8
part A pins: 1 OUT, 2 -IN, 3 +IN, 4 -VS, 8 +VS
part B pins: 5 +IN, 6 -IN, 7 OUT

## NetTie
designator NT?  (net tie, no BOM)
footprint NetTie
pins: 1, 2

## Optocoupler
designator U?
pins: 1 A, 2 C, 3 NC, 4 E, 5 C, 6 B

## PC817
designator U?
footprint DIP4
footprint DIP4_GW
pins: 1, 2, 3, 4

## Poly Switch
designator P?
Poly Switch
pins: 1 Cap, 2 Cap

## POTENCIOMETRO
designator R?
footprint POTENCIOMETRO
pins: 1, 2, 3

## PRESET
designator R?
footprint PRESET H
footprint PRESET V
pins: 1, 2, 3

## QN9020
designator U?
footprint HVQFN48
part A pins: 1 VCC, 4 XTAL2_32K, 5 XTAL1_32K, 12 VSS, 13 VDD, 31 RSTN, 32 RVDD, 33 RFN, 34 RFP, 35 VSS, 36 VDD, 37 REXT, 38 VDD, 39 XTAL2, 40 XTAL1, 47 VSS, 48 IDC
part B pins: 2 SWCLK/P0_7/AIN3/ACMP1-, 3 SWDIO/P0_6/AIN2/ACMP1+, 6 P0_5/SCL/ADCT/ACMP1_O, 7 P0_4/CLKOUT1/RTCI, 8 P0_3/CLKOUT0/T0_ECLK, 9 P0_2/SDA/SPICLK0/RTS0, 10 P0_1/nCS0_0/CTS0, 11 P0_0/TXD0/DAT0/RTCI, 14 P1_7/RXD0/DIN0/T0_0, 15 P1_6/nCS0_1/PWM0/T0_3, 16 P1_5/PWM1_T1_2, 17 P1_4/T1_3, 18 P1_3/SPICLK1/RTS1/CLKOUT1, 19 P1_2/nCS1_0/CTS1/ADCT, 20 P1_1/DAT1/TXD1/T1_0, 21 P1_0/DIN1/RXD1/T2_ECLK, 22 P2_7/ACMP1_O/PWM0/T1_ECLK, 23 P2_6/PWM1/T2_0, 24 P2_5/nCS1_1/T2_2, 25 P2_4/SCL/PWM1/T3_ECLK, 26 P2_3/SDA/ACMP0_O, 27 P2_2/SPICLK1/RTS1/T2_3, 28 P2_1/DAT1/TXD1/T3_1, 29 P2_0/DIN1/RXD1/T3_2, 41 P3_5/nCS0_0/T0_0, 42 P3_4/SPICLK0, 43 P3_3/DAT0/CLKOUT0, 44 P3_2/DIN0/ACMP0_O, 45 P3_1/T0_2/AIN1/ACMP0-, 46 P3_0/T2_1/AIN0/ACMP0+

## R-PACK 4+1
designator RP?
footprint RESNET4+1
pins: 1, 2, 3, 4, 5

## R-PACK 5+1
designator RP?
pins: 1, 2, 3, 4, 5, 6

## R-PACK 8+1
designator RP?
footprint RESNET8+1
pins: 1, 2, 3, 4, 5, 6, 7, 8, 9

## R-PACK 9+1
designator R?
footprint RESNET9+1
pins: 1 2, 2, 3, 4, 5, 6, 7, 8, 9, 10

## ReedSwitch
designator SW?
footprint Reedswitch (RI-02SMDM-1015-G1)
pins: 1, 2

## Regulador DPAK
designator U?
footprint DPAK
pins: 1 Vin, 2 GND, 3 Vout

## RELE DOBLE INVERSOR
designator RY?
footprint RELE DIP16
pins: 1 B1, 4 C2, 6 NC2, 8 NA2, 9 NA1, 11 NC1, 13 C1, 16 B2

## RELE SIMPLE
designator *
footprint RELE SERIE 964
footprint RELE SERIE 943
pins: B1, B2, C1, NA1, NC1